# Altium schematic symbol library SamacSys.SchLib: 1281 symbols (part 12 of 13)
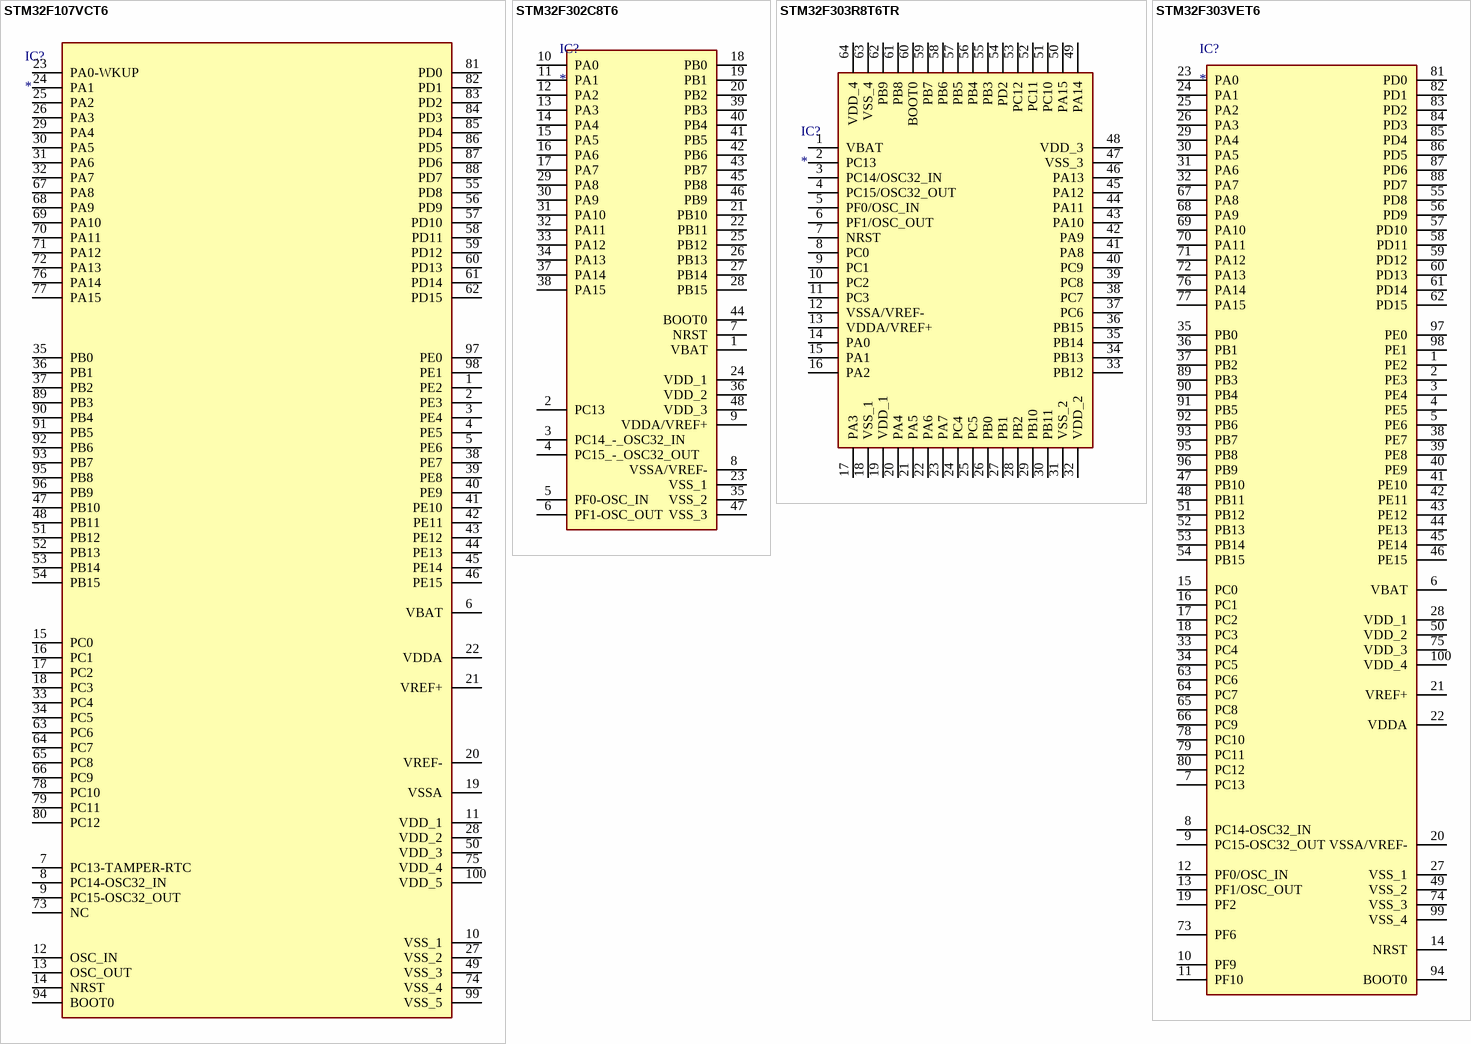
[diagram p58: symbols STM32F107VCT6 to STM32F303VET6]

## STM32F302C8T6
designator IC?
Integrated Circuit; Manufacturer_Name: STMicroelectronics; Manufacturer_Part_Number: STM32F302C8T6; Datasheet Link: http://www.st.com/content/ccc/resource/technical/document/datasheet/e4/06/d5/04/58/af/41/14/DM00093333.pdf/files/DM00093333.pdf/jcr:content/translations/en.DM00093333.pdf; Height: 1.6mm; Mouser Part Number: 511-STM32F302C8T6; Mouser Price/Stock: https://www.mouser.co.uk/ProductDetail/STMicroelectronics/STM32F302C8T6?qs=F5OEftmZcCDUtHR76ET77A%3D%3D; Arrow Part Number: STM32F302C8T6; Arrow Price/Stock: https://www.arrow.com/en/products/stm32f302c8t6/stmicroelectronics
footprint QFP50P900X900X160-48N
pins: 1 VBAT (power), 2 PC13, 3 PC14_-_OSC32_IN, 4 PC15_-_OSC32_OUT, 5 PF0-OSC_IN, 6 PF1-OSC_OUT, 7 NRST, 8 VSSA/VREF- (power), 9 VDDA/VREF+ (power), 10 PA0, 11 PA1, 12 PA2, 13 PA3, 14 PA4, 15 PA5, 16 PA6, 17 PA7, 18 PB0, 19 PB1, 20 PB2, 21 PB10, 22 PB11, 23 VSS_1 (power), 24 VDD_1 (power), 25 PB12, 26 PB13, 27 PB14, 28 PB15, 29 PA8, 30 PA9, 31 PA10, 32 PA11, 33 PA12, 34 PA13, 35 VSS_2 (power), 36 VDD_2 (power), 37 PA14, 38 PA15, 39 PB3, 40 PB4, 41 PB5, 42 PB6, 43 PB7, 44 BOOT0, 45 PB8, 46 PB9, 47 VSS_3 (power), 48 VDD_3 (power)

## STM32F303R8T6TR
designator IC?
Integrated Circuit; Manufacturer_Name: STMicroelectronics; Manufacturer_Part_Number: STM32F303R8T6TR; Datasheet Link: http://www.st.com/content/ccc/resource/technical/document/datasheet/group3/38/c6/ca/d1/f7/d5/4e/30/DM00092070/files/DM00092070.pdf/jcr:content/translations/en.DM00092070.pdf; Height: 1.6mm; Mouser Part Number: 511-STM32F303R8T6TR; Mouser Price/Stock: https://www.mouser.co.uk/ProductDetail/STMicroelectronics/STM32F303R8T6TR/?qs=Mv7BduZupUhh%2FFuiSoO91A%3D%3D; Arrow Part Number: STM32F303R8T6TR; Arrow Price/Stock: https://www.arrow.com/en/products/stm32f303r8t6tr/stmicroelectronics
footprint QFP50P1200X1200X160-64N
pins: 1 VBAT, 2 PC13, 3 PC14/OSC32_IN, 4 PC15/OSC32_OUT, 5 PF0/OSC_IN, 6 PF1/OSC_OUT, 7 NRST, 8 PC0, 9 PC1, 10 PC2, 11 PC3, 12 VSSA/VREF-, 13 VDDA/VREF+, 14 PA0, 15 PA1, 16 PA2, 17 PA3, 18 VSS_1, 19 VDD_1, 20 PA4, 21 PA5, 22 PA6, 23 PA7, 24 PC4, 25 PC5, 26 PB0, 27 PB1, 28 PB2, 29 PB10, 30 PB11, 31 VSS_2, 32 VDD_2, 33 PB12, 34 PB13, 35 PB14, 36 PB15, 37 PC6, 38 PC7, 39 PC8, 40 PC9, 41 PA8, 42 PA9, 43 PA10, 44 PA11, 45 PA12, 46 PA13, 47 VSS_3, 48 VDD_3, 49 PA14, 50 PA15, 51 PC10, 52 PC11, 53 PC12, 54 PD2, 55 PB3, 56 PB4, 57 PB5, 58 PB6, 59 PB7, 60 BOOT0, 61 PB8, 62 PB9, 63 VSS_4, 64 VDD_4

## STM32F303VET6
designator IC?
Integrated Circuit; Manufacturer_Name: STMicroelectronics; Manufacturer_Part_Number: STM32F303VET6; Datasheet Link: https://www.st.com/resource/en/datasheet/stm32f303re.pdf; Height: 1.6mm; Mouser Part Number: 511-STM32F303VET6; Mouser Price/Stock: https://www.mouser.co.uk/ProductDetail/STMicroelectronics/STM32F303VET6?qs=iEvsikg1EVwcae%2FGytZd7A%3D%3D; Arrow Part Number: STM32F303VET6; Arrow Price/Stock: https://www.arrow.com/en/products/stm32f303vet6/stmicroelectronics?region=nac
footprint QFP50P1600X1600X160-100N
pins: 1 PE2, 2 PE3, 3 PE4, 4 PE5, 5 PE6, 6 VBAT, 7 PC13, 8 PC14-OSC32_IN, 9 PC15-OSC32_OUT, 10 PF9, 11 PF10, 12 PF0/OSC_IN, 13 PF1/OSC_OUT, 14 NRST, 15 PC0, 16 PC1, 17 PC2, 18 PC3, 19 PF2, 20 VSSA/VREF-, 21 VREF+, 22 VDDA, 23 PA0, 24 PA1, 25 PA2, 26 PA3, 27 VSS_1, 28 VDD_1, 29 PA4, 30 PA5, 31 PA6, 32 PA7, 33 PC4, 34 PC5, 35 PB0, 36 PB1, 37 PB2, 38 PE7, 39 PE8, 40 PE9, 41 PE10, 42 PE11, 43 PE12, 44 PE13, 45 PE14, 46 PE15, 47 PB10, 48 PB11, 49 VSS_2, 50 VDD_2, 51 PB12, 52 PB13, 53 PB14, 54 PB15, 55 PD8, 56 PD9, 57 PD10, 58 PD11, 59 PD12, 60 PD13, 61 PD14, 62 PD15, 63 PC6, 64 PC7, 65 PC8, 66 PC9, 67 PA8, 68 PA9, 69 PA10, 70 PA11, 71 PA12, 72 PA13, 73 PF6, 74 VSS_3, 75 VDD_3, 76 PA14, 77 PA15, 78 PC10, 79 PC11, 80 PC12, 81 PD0, 82 PD1, 83 PD2, 84 PD3, 85 PD4, 86 PD5, 87 PD6, 88 PD7, 89 PB3, 90 PB4, 91 PB5, 92 PB6, 93 PB7, 94 BOOT0, 95 PB8, 96 PB9, 97 PE0, 98 PE1, 99 VSS_4, 100 VDD_4

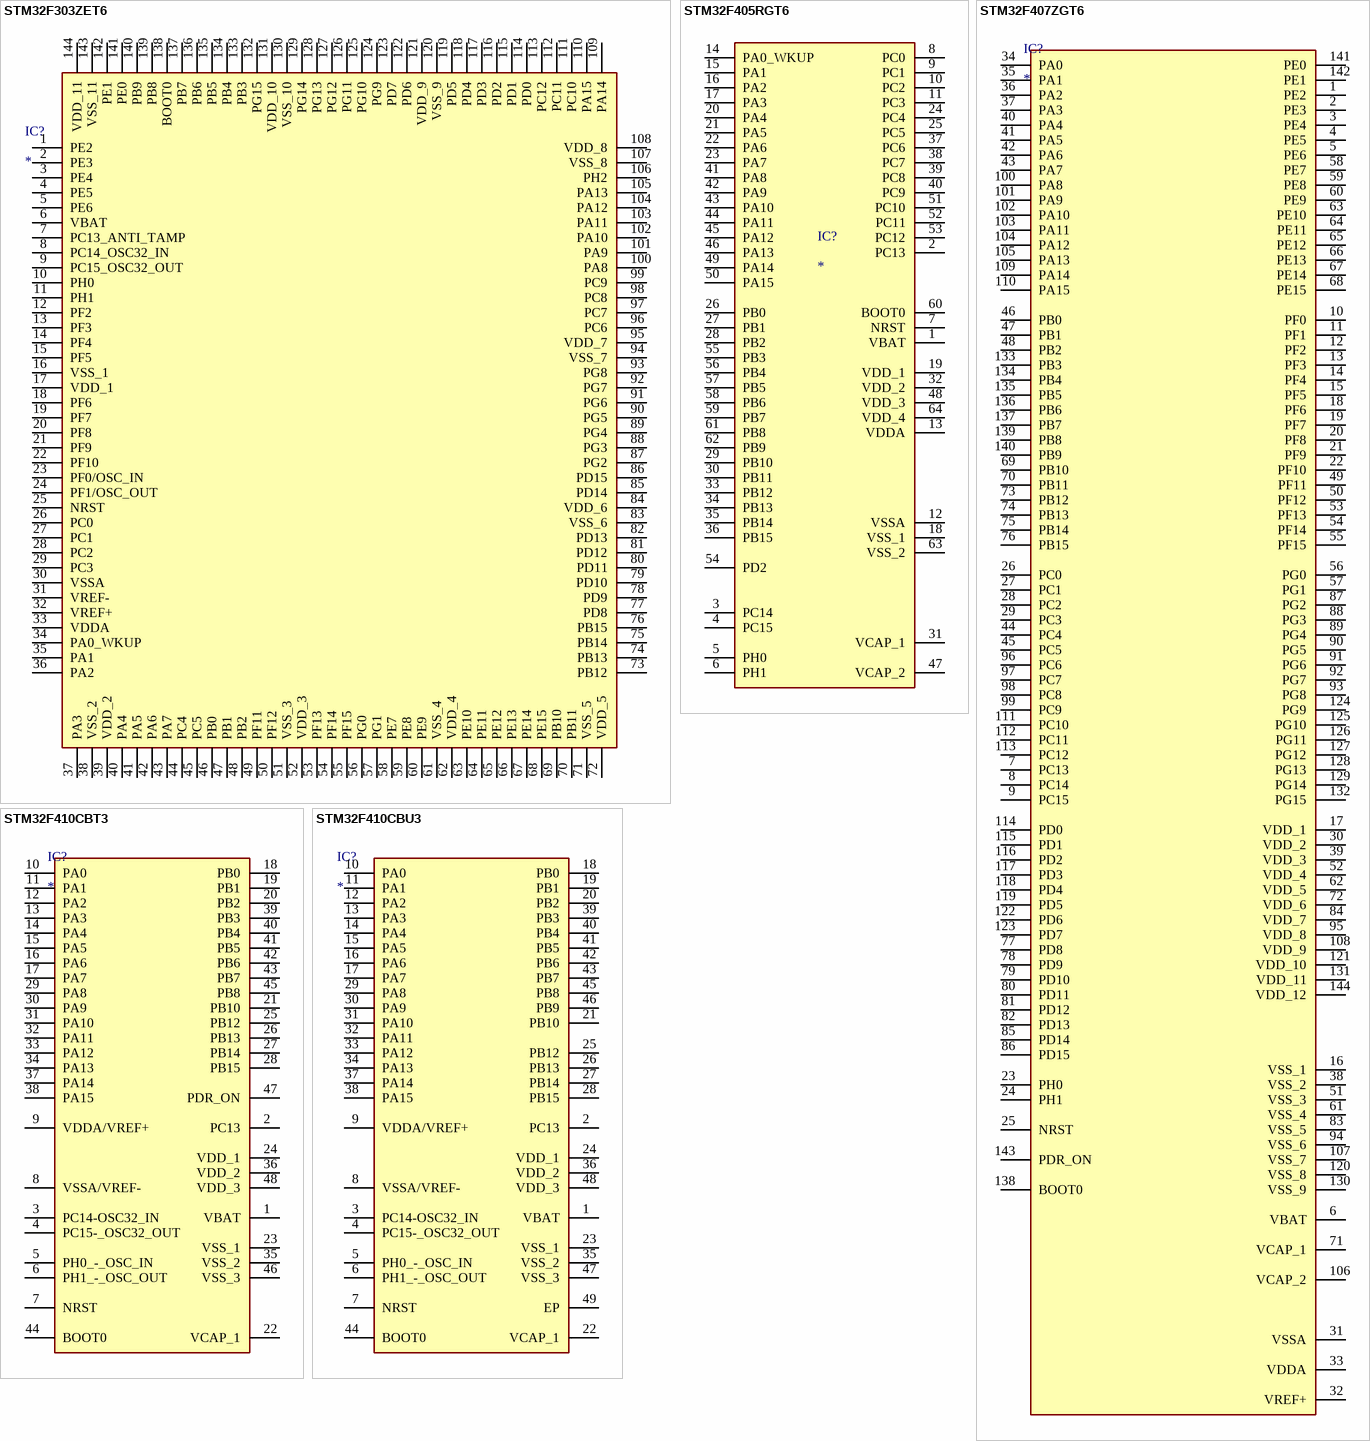
[diagram p41: symbols STM32F303ZET6 to STM32F410CBU3]

## STM32F303ZET6
designator IC?
Integrated Circuit; Manufacturer_Name: STMicroelectronics; Manufacturer_Part_Number: STM32F303ZET6; Datasheet Link: https://www.mouser.com/datasheet/2/389/stm32f303re-956235.pdf; Height: 1.6mm; Mouser Part Number: 511-STM32F303ZET6; Mouser Price/Stock: https://www.mouser.co.uk/ProductDetail/STMicroelectronics/STM32F303ZET6/?qs=iEvsikg1EVzOwGfbpy08jw%3D%3D; Arrow Part Number: STM32F303ZET6; Arrow Price/Stock: https://www.arrow.com/en/products/stm32f303zet6/stmicroelectronics
footprint QFP50P2200X2200X160-144N
pins: 1 PE2, 2 PE3, 3 PE4, 4 PE5, 5 PE6, 6 VBAT, 7 PC13_ANTI_TAMP, 8 PC14_OSC32_IN, 9 PC15_OSC32_OUT, 10 PH0, 11 PH1, 12 PF2, 13 PF3, 14 PF4, 15 PF5, 16 VSS_1, 17 VDD_1, 18 PF6, 19 PF7, 20 PF8, 21 PF9, 22 PF10, 23 PF0/OSC_IN, 24 PF1/OSC_OUT, 25 NRST, 26 PC0, 27 PC1, 28 PC2, 29 PC3, 30 VSSA, 31 VREF-, 32 VREF+, 33 VDDA, 34 PA0_WKUP, 35 PA1, 36 PA2, 37 PA3, 38 VSS_2, 39 VDD_2, 40 PA4, 41 PA5, 42 PA6, 43 PA7, 44 PC4, 45 PC5, 46 PB0, 47 PB1, 48 PB2, 49 PF11, 50 PF12, 51 VSS_3, 52 VDD_3, 53 PF13, 54 PF14, 55 PF15, 56 PG0, 57 PG1, 58 PE7, 59 PE8, 60 PE9, 61 VSS_4, 62 VDD_4, 63 PE10, 64 PE11, 65 PE12, 66 PE13, 67 PE14, 68 PE15, 69 PB10, 70 PB11, 71 VSS_5, 72 VDD_5, 73 PB12, 74 PB13, 75 PB14, 76 PB15, 77 PD8, 78 PD9, 79 PD10, 80 PD11, 81 PD12, 82 PD13, 83 VSS_6, 84 VDD_6, 85 PD14, 86 PD15, 87 PG2, 88 PG3, 89 PG4, 90 PG5, 91 PG6, 92 PG7, 93 PG8, 94 VSS_7, 95 VDD_7, 96 PC6, 97 PC7, 98 PC8, 99 PC9, 100 PA8, 101 PA9, 102 PA10, 103 PA11, 104 PA12, 105 PA13, 106 PH2, 107 VSS_8, 108 VDD_8, 109 PA14, 110 PA15, 111 PC10, 112 PC11, 113 PC12, 114 PD0, 115 PD1, 116 PD2, 117 PD3, 118 PD4, 119 PD5, 120 VSS_9, 121 VDD_9, 122 PD6, 123 PD7, 124 PG9, 125 PG10, 126 PG11, 127 PG12, 128 PG13, 129 PG14, 130 VSS_10, 131 VDD_10, 132 PG15, 133 PB3, 134 PB4, 135 PB5, 136 PB6, 137 PB7, 138 BOOT0, 139 PB8, 140 PB9, 141 PE0, 142 PE1, 143 VSS_11, 144 VDD_11

## STM32F405RGT6
designator IC?
Integrated Circuit; Manufacturer_Name: STMicroelectronics; Manufacturer_Part_Number: STM32F405RGT6; Datasheet Link: http://www.st.com/web/en/resource/technical/document/datasheet/DM00037051.pdf; Height: 1.6mm; Mouser Part Number: 511-STM32F405RGT6; Mouser Price/Stock: https://www.mouser.co.uk/ProductDetail/STMicroelectronics/STM32F405RGT6?qs=Z8%252BeY1k3TIKgj7QWsYGpQw%3D%3D; Arrow Part Number: STM32F405RGT6; Arrow Price/Stock: https://www.arrow.com/en/products/stm32f405rgt6/stmicroelectronics?region=nac
footprint QFP50P1200X1200X160-64N
pins: 1 VBAT, 2 PC13, 3 PC14, 4 PC15, 5 PH0, 6 PH1, 7 NRST, 8 PC0, 9 PC1, 10 PC2, 11 PC3, 12 VSSA, 13 VDDA, 14 PA0_WKUP, 15 PA1, 16 PA2, 17 PA3, 18 VSS_1, 19 VDD_1, 20 PA4, 21 PA5, 22 PA6, 23 PA7, 24 PC4, 25 PC5, 26 PB0, 27 PB1, 28 PB2, 29 PB10, 30 PB11, 31 VCAP_1, 32 VDD_2, 33 PB12, 34 PB13, 35 PB14, 36 PB15, 37 PC6, 38 PC7, 39 PC8, 40 PC9, 41 PA8, 42 PA9, 43 PA10, 44 PA11, 45 PA12, 46 PA13, 47 VCAP_2, 48 VDD_3, 49 PA14, 50 PA15, 51 PC10, 52 PC11, 53 PC12, 54 PD2, 55 PB3, 56 PB4, 57 PB5, 58 PB6, 59 PB7, 60 BOOT0, 61 PB8, 62 PB9, 63 VSS_2, 64 VDD_4

## STM32F407ZGT6
designator IC?
Integrated Circuit; Manufacturer_Name: STMicroelectronics; Manufacturer_Part_Number: STM32F407ZGT6; Datasheet Link: http://www.st.com/web/en/resource/technical/document/datasheet/DM00037051.pdf; Height: 1.6mm; Mouser Part Number: 511-STM32F407ZGT6; Mouser Price/Stock: https://www.mouser.co.uk/ProductDetail/STMicroelectronics/STM32F407ZGT6?qs=Z8%252BeY1k3TIKo142SZNWnSQ%3D%3D; Arrow Part Number: STM32F407ZGT6; Arrow Price/Stock: https://www.arrow.com/en/products/stm32f407zgt6/stmicroelectronics?region=nac
footprint QFP50P2200X2200X160-144N
pins: 1 PE2, 2 PE3, 3 PE4, 4 PE5, 5 PE6, 6 VBAT, 7 PC13, 8 PC14, 9 PC15, 10 PF0, 11 PF1, 12 PF2, 13 PF3, 14 PF4, 15 PF5, 16 VSS_1, 17 VDD_1, 18 PF6, 19 PF7, 20 PF8, 21 PF9, 22 PF10, 23 PH0, 24 PH1, 25 NRST, 26 PC0, 27 PC1, 28 PC2, 29 PC3, 30 VDD_2, 31 VSSA, 32 VREF+, 33 VDDA, 34 PA0, 35 PA1, 36 PA2, 37 PA3, 38 VSS_2, 39 VDD_3, 40 PA4, 41 PA5, 42 PA6, 43 PA7, 44 PC4, 45 PC5, 46 PB0, 47 PB1, 48 PB2, 49 PF11, 50 PF12, 51 VSS_3, 52 VDD_4, 53 PF13, 54 PF14, 55 PF15, 56 PG0, 57 PG1, 58 PE7, 59 PE8, 60 PE9, 61 VSS_4, 62 VDD_5, 63 PE10, 64 PE11, 65 PE12, 66 PE13, 67 PE14, 68 PE15, 69 PB10, 70 PB11, 71 VCAP_1, 72 VDD_6, 73 PB12, 74 PB13, 75 PB14, 76 PB15, 77 PD8, 78 PD9, 79 PD10, 80 PD11, 81 PD12, 82 PD13, 83 VSS_5, 84 VDD_7, 85 PD14, 86 PD15, 87 PG2, 88 PG3, 89 PG4, 90 PG5, 91 PG6, 92 PG7, 93 PG8, 94 VSS_6, 95 VDD_8, 96 PC6, 97 PC7, 98 PC8, 99 PC9, 100 PA8, 101 PA9, 102 PA10, 103 PA11, 104 PA12, 105 PA13, 106 VCAP_2, 107 VSS_7, 108 VDD_9, 109 PA14, 110 PA15, 111 PC10, 112 PC11, 113 PC12, 114 PD0, 115 PD1, 116 PD2, 117 PD3, 118 PD4, 119 PD5, 120 VSS_8, 121 VDD_10, 122 PD6, 123 PD7, 124 PG9, 125 PG10, 126 PG11, 127 PG12, 128 PG13, 129 PG14, 130 VSS_9, 131 VDD_11, 132 PG15, 133 PB3, 134 PB4, 135 PB5, 136 PB6, 137 PB7, 138 BOOT0, 139 PB8, 140 PB9, 141 PE0, 142 PE1, 143 PDR_ON, 144 VDD_12

## STM32F410CBT3
designator IC?
Integrated Circuit; Manufacturer_Name: STMicroelectronics; Manufacturer_Part_Number: STM32F410CBT3; Datasheet Link: https://www.st.com/resource/en/datasheet/stm32f410cb.pdf; Height: 1.6mm; Mouser Part Number: 511-STM32F410CBT3; Mouser Price/Stock: https://www.mouser.co.uk/ProductDetail/STMicroelectronics/STM32F410CBT3?qs=aVyJF2WnouRcCwtM3E6qMA%3D%3D; Arrow Part Number: STM32F410CBT3; Arrow Price/Stock: https://www.arrow.com/en/products/stm32f410cbt3/stmicroelectronics?region=nac
footprint QFP50P900X900X160-48N
pins: 1 VBAT, 2 PC13, 3 PC14-OSC32_IN, 4 PC15-_OSC32_OUT, 5 PH0_-_OSC_IN, 6 PH1_-_OSC_OUT, 7 NRST, 8 VSSA/VREF-, 9 VDDA/VREF+, 10 PA0, 11 PA1, 12 PA2, 13 PA3, 14 PA4, 15 PA5, 16 PA6, 17 PA7, 18 PB0, 19 PB1, 20 PB2, 21 PB10, 22 VCAP_1, 23 VSS_1, 24 VDD_1, 25 PB12, 26 PB13, 27 PB14, 28 PB15, 29 PA8, 30 PA9, 31 PA10, 32 PA11, 33 PA12, 34 PA13, 35 VSS_2, 36 VDD_2, 37 PA14, 38 PA15, 39 PB3, 40 PB4, 41 PB5, 42 PB6, 43 PB7, 44 BOOT0, 45 PB8, 46 VSS_3, 47 PDR_ON, 48 VDD_3

## STM32F410CBU3
designator IC?
Integrated Circuit; Manufacturer_Name: STMicroelectronics; Manufacturer_Part_Number: STM32F410CBU3; Datasheet Link: https://mouser.componentsearchengine.com/Datasheets/1/STM32F410CBU3.pdf; Height: 0.8mm; Mouser Part Number: 511-STM32F410CBU3; Mouser Price/Stock: https://www.mouser.co.uk/ProductDetail/STMicroelectronics/STM32F410CBU3?qs=vdi0iO8H4N2mLP2BZX6peA%3D%3D; Arrow Part Number: STM32F410CBU3; Arrow Price/Stock: https://www.arrow.com/en/products/stm32f410cbu3/stmicroelectronics?region=nac
footprint QFN50P700X700X80-49N-D
pins: 1 VBAT, 2 PC13, 3 PC14-OSC32_IN, 4 PC15-_OSC32_OUT, 5 PH0_-_OSC_IN, 6 PH1_-_OSC_OUT, 7 NRST, 8 VSSA/VREF-, 9 VDDA/VREF+, 10 PA0, 11 PA1, 12 PA2, 13 PA3, 14 PA4, 15 PA5, 16 PA6, 17 PA7, 18 PB0, 19 PB1, 20 PB2, 21 PB10, 22 VCAP_1, 23 VSS_1, 24 VDD_1, 25 PB12, 26 PB13, 27 PB14, 28 PB15, 29 PA8, 30 PA9, 31 PA10, 32 PA11, 33 PA12, 34 PA13, 35 VSS_2, 36 VDD_2, 37 PA14, 38 PA15, 39 PB3, 40 PB4, 41 PB5, 42 PB6, 43 PB7, 44 BOOT0, 45 PB8, 46 PB9, 47 VSS_3, 48 VDD_3, 49 EP

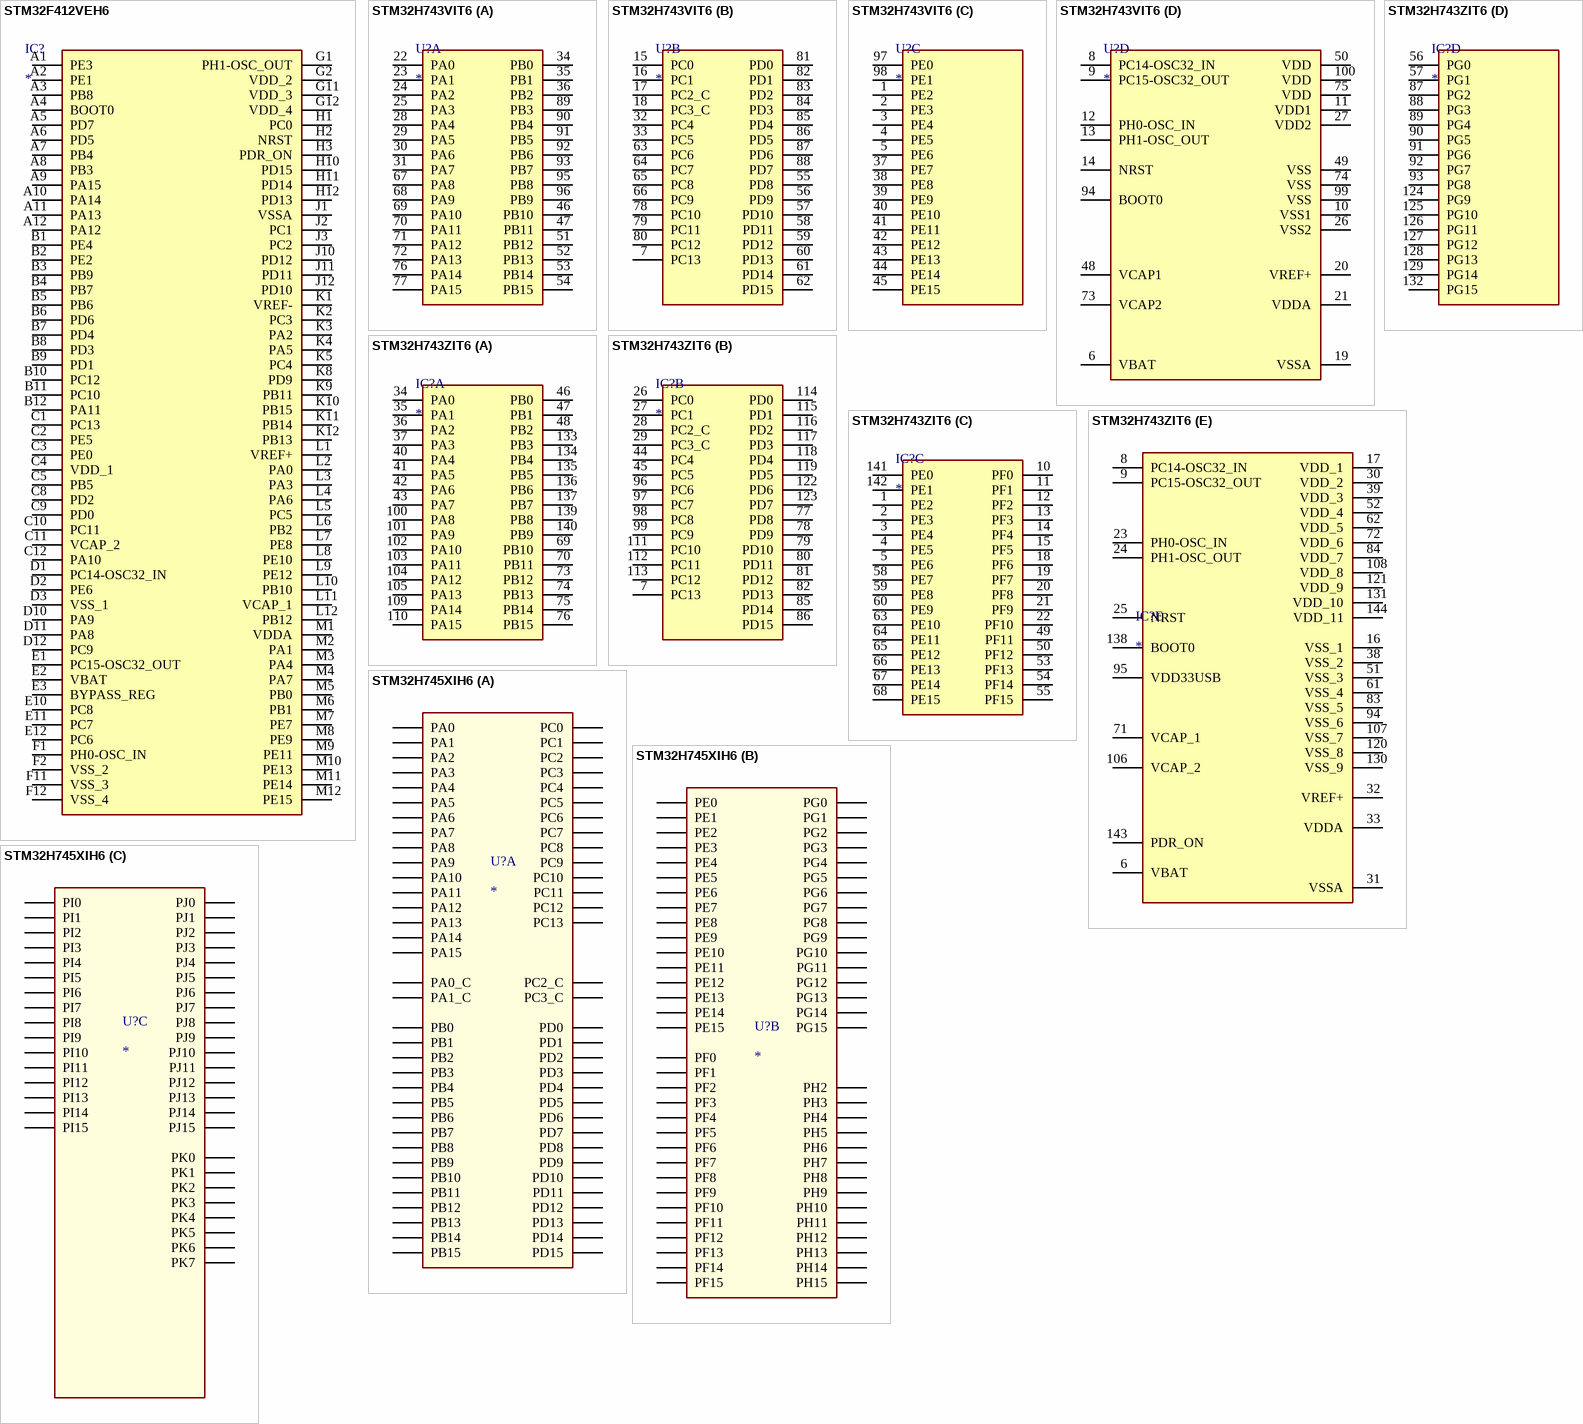
[diagram p42: symbols STM32F412VEH6 to STM32H745XIH6]

## STM32F412VEH6
designator IC?
Integrated Circuit; Manufacturer_Name: STMicroelectronics; Manufacturer_Part_Number: STM32F412VEH6; Datasheet Link: https://www.st.com/resource/en/datasheet/stm32f412ve.pdf; Height: 0.6mm; Mouser Part Number: 511-STM32F412VEH6; Mouser Price/Stock: https://www.mouser.co.uk/ProductDetail/STMicroelectronics/STM32F412VEH6?qs=xwQlLnDx56DBogKHiTOukA%3D%3D; Arrow Part Number: STM32F412VEH6; Arrow Price/Stock: https://www.arrow.com/en/products/stm32f412veh6/stmicroelectronics?region=nac
footprint BGA100C50P12X12_700X700X60
pins: A1 PE3, A2 PE1, A3 PB8, A4 BOOT0, A5 PD7, A6 PD5, A7 PB4, A8 PB3, A9 PA15, A10 PA14, A11 PA13, A12 PA12, B1 PE4, B2 PE2, B3 PB9, B4 PB7, B5 PB6, B6 PD6, B7 PD4, B8 PD3, B9 PD1, B10 PC12, B11 PC10, B12 PA11, C1 PC13, C2 PE5, C3 PE0, C4 VDD_1, C5 PB5, C8 PD2, C9 PD0, C10 PC11, C11 VCAP_2, C12 PA10, D1 PC14-OSC32_IN, D2 PE6, D3 VSS_1, D10 PA9, D11 PA8, D12 PC9, E1 PC15-OSC32_OUT, E2 VBAT, E3 BYPASS_REG, E10 PC8, E11 PC7, E12 PC6, F1 PH0-OSC_IN, F2 VSS_2, F11 VSS_3, F12 VSS_4, G1 PH1-OSC_OUT, G2 VDD_2, G11 VDD_3, G12 VDD_4, H1 PC0, H2 NRST, H3 PDR_ON, H10 PD15, H11 PD14, H12 PD13, J1 VSSA, J2 PC1, J3 PC2, J10 PD12, J11 PD11, J12 PD10, K1 VREF-, K2 PC3, K3 PA2, K4 PA5, K5 PC4, K8 PD9, K9 PB11, K10 PB15, K11 PB14, K12 PB13, L1 VREF+, L2 PA0, L3 PA3, L4 PA6, L5 PC5, L6 PB2, L7 PE8, L8 PE10, L9 PE12, L10 PB10, L11 VCAP_1, L12 PB12, M1 VDDA, M2 PA1, M3 PA4, M4 PA7, M5 PB0, M6 PB1, M7 PE7, M8 PE9, M9 PE11, M10 PE13, M11 PE14, M12 PE15

## STM32H743VIT6
designator U?
Integrated Circuit; Manufacturer_Name: STMicroelectronics; Manufacturer_Part_Number: STM32H743VIT6; Datasheet Link: https://www.st.com/resource/en/datasheet/stm32h743vi.pdf; Height: 1.6mm; Mouser Part Number: 511-STM32H743VIT6; Mouser Price/Stock: https://www.mouser.co.uk/ProductDetail/STMicroelectronics/STM32H743VIT6?qs=FNcb6ahWXRw0Me5k2ZHgWw%3D%3D; Arrow Part Number: STM32H743VIT6; Arrow Price/Stock: https://www.arrow.com/en/products/stm32h743vit6/stmicroelectronics
footprint QFP50P1600X1600X160-100N
part A pins: 22 PA0, 23 PA1, 24 PA2, 25 PA3, 28 PA4, 29 PA5, 30 PA6, 31 PA7, 34 PB0, 35 PB1, 36 PB2, 46 PB10, 47 PB11, 51 PB12, 52 PB13, 53 PB14, 54 PB15, 67 PA8, 68 PA9, 69 PA10, 70 PA11, 71 PA12, 72 PA13, 76 PA14, 77 PA15, 89 PB3, 90 PB4, 91 PB5, 92 PB6, 93 PB7, 95 PB8, 96 PB9
part B pins: 7 PC13, 15 PC0, 16 PC1, 17 PC2_C, 18 PC3_C, 32 PC4, 33 PC5, 55 PD8, 56 PD9, 57 PD10, 58 PD11, 59 PD12, 60 PD13, 61 PD14, 62 PD15, 63 PC6, 64 PC7, 65 PC8, 66 PC9, 78 PC10, 79 PC11, 80 PC12, 81 PD0, 82 PD1, 83 PD2, 84 PD3, 85 PD4, 86 PD5, 87 PD6, 88 PD7
part C pins: 1 PE2, 2 PE3, 3 PE4, 4 PE5, 5 PE6, 37 PE7, 38 PE8, 39 PE9, 40 PE10, 41 PE11, 42 PE12, 43 PE13, 44 PE14, 45 PE15, 97 PE0, 98 PE1
part D pins: 6 VBAT, 8 PC14-OSC32_IN, 9 PC15-OSC32_OUT, 10 VSS1, 11 VDD1, 12 PH0-OSC_IN, 13 PH1-OSC_OUT, 14 NRST, 19 VSSA, 20 VREF+, 21 VDDA, 26 VSS2, 27 VDD2, 48 VCAP1, 49 VSS, 50 VDD, 73 VCAP2, 74 VSS, 75 VDD, 94 BOOT0, 99 VSS, 100 VDD

## STM32H743ZIT6
designator IC?
Integrated Circuit; Manufacturer_Name: STMicroelectronics; Manufacturer_Part_Number: STM32H743ZIT6; Datasheet Link: https://www.st.com/resource/en/datasheet/stm32h743zi.pdf; Height: 1.6mm; Mouser Part Number: 511-STM32H743ZIT6; Mouser Price/Stock: https://www.mouser.co.uk/ProductDetail/STMicroelectronics/STM32H743ZIT6?qs=FNcb6ahWXRyuf15GdgTu%252Bw%3D%3D; Arrow Part Number: STM32H743ZIT6; Arrow Price/Stock: https://www.arrow.com/en/products/stm32h743zit6/stmicroelectronics?utm_currency=USD&region=nac
footprint QFP50P2200X2200X160-144N
part A pins: 34 PA0, 35 PA1, 36 PA2, 37 PA3, 40 PA4, 41 PA5, 42 PA6, 43 PA7, 46 PB0, 47 PB1, 48 PB2, 69 PB10, 70 PB11, 73 PB12, 74 PB13, 75 PB14, 76 PB15, 100 PA8, 101 PA9, 102 PA10, 103 PA11, 104 PA12, 105 PA13, 109 PA14, 110 PA15, 133 PB3, 134 PB4, 135 PB5, 136 PB6, 137 PB7, 139 PB8, 140 PB9
part B pins: 7 PC13, 26 PC0, 27 PC1, 28 PC2_C, 29 PC3_C, 44 PC4, 45 PC5, 77 PD8, 78 PD9, 79 PD10, 80 PD11, 81 PD12, 82 PD13, 85 PD14, 86 PD15, 96 PC6, 97 PC7, 98 PC8, 99 PC9, 111 PC10, 112 PC11, 113 PC12, 114 PD0, 115 PD1, 116 PD2, 117 PD3, 118 PD4, 119 PD5, 122 PD6, 123 PD7
part C pins: 1 PE2, 2 PE3, 3 PE4, 4 PE5, 5 PE6, 10 PF0, 11 PF1, 12 PF2, 13 PF3, 14 PF4, 15 PF5, 18 PF6, 19 PF7, 20 PF8, 21 PF9, 22 PF10, 49 PF11, 50 PF12, 53 PF13, 54 PF14, 55 PF15, 58 PE7, 59 PE8, 60 PE9, 63 PE10, 64 PE11, 65 PE12, 66 PE13, 67 PE14, 68 PE15, 141 PE0, 142 PE1
part D pins: 56 PG0, 57 PG1, 87 PG2, 88 PG3, 89 PG4, 90 PG5, 91 PG6, 92 PG7, 93 PG8, 124 PG9, 125 PG10, 126 PG11, 127 PG12, 128 PG13, 129 PG14, 132 PG15
part E pins: 6 VBAT, 8 PC14-OSC32_IN, 9 PC15-OSC32_OUT, 16 VSS_1, 17 VDD_1, 23 PH0-OSC_IN, 24 PH1-OSC_OUT, 25 NRST, 30 VDD_2, 31 VSSA, 32 VREF+, 33 VDDA, 38 VSS_2, 39 VDD_3, 51 VSS_3, 52 VDD_4, 61 VSS_4, 62 VDD_5, 71 VCAP_1, 72 VDD_6, 83 VSS_5, 84 VDD_7, 94 VSS_6, 95 VDD33USB, 106 VCAP_2, 107 VSS_7, 108 VDD_8, 120 VSS_8, 121 VDD_9, 130 VSS_9, 131 VDD_10, 138 BOOT0, 143 PDR_ON, 144 VDD_11

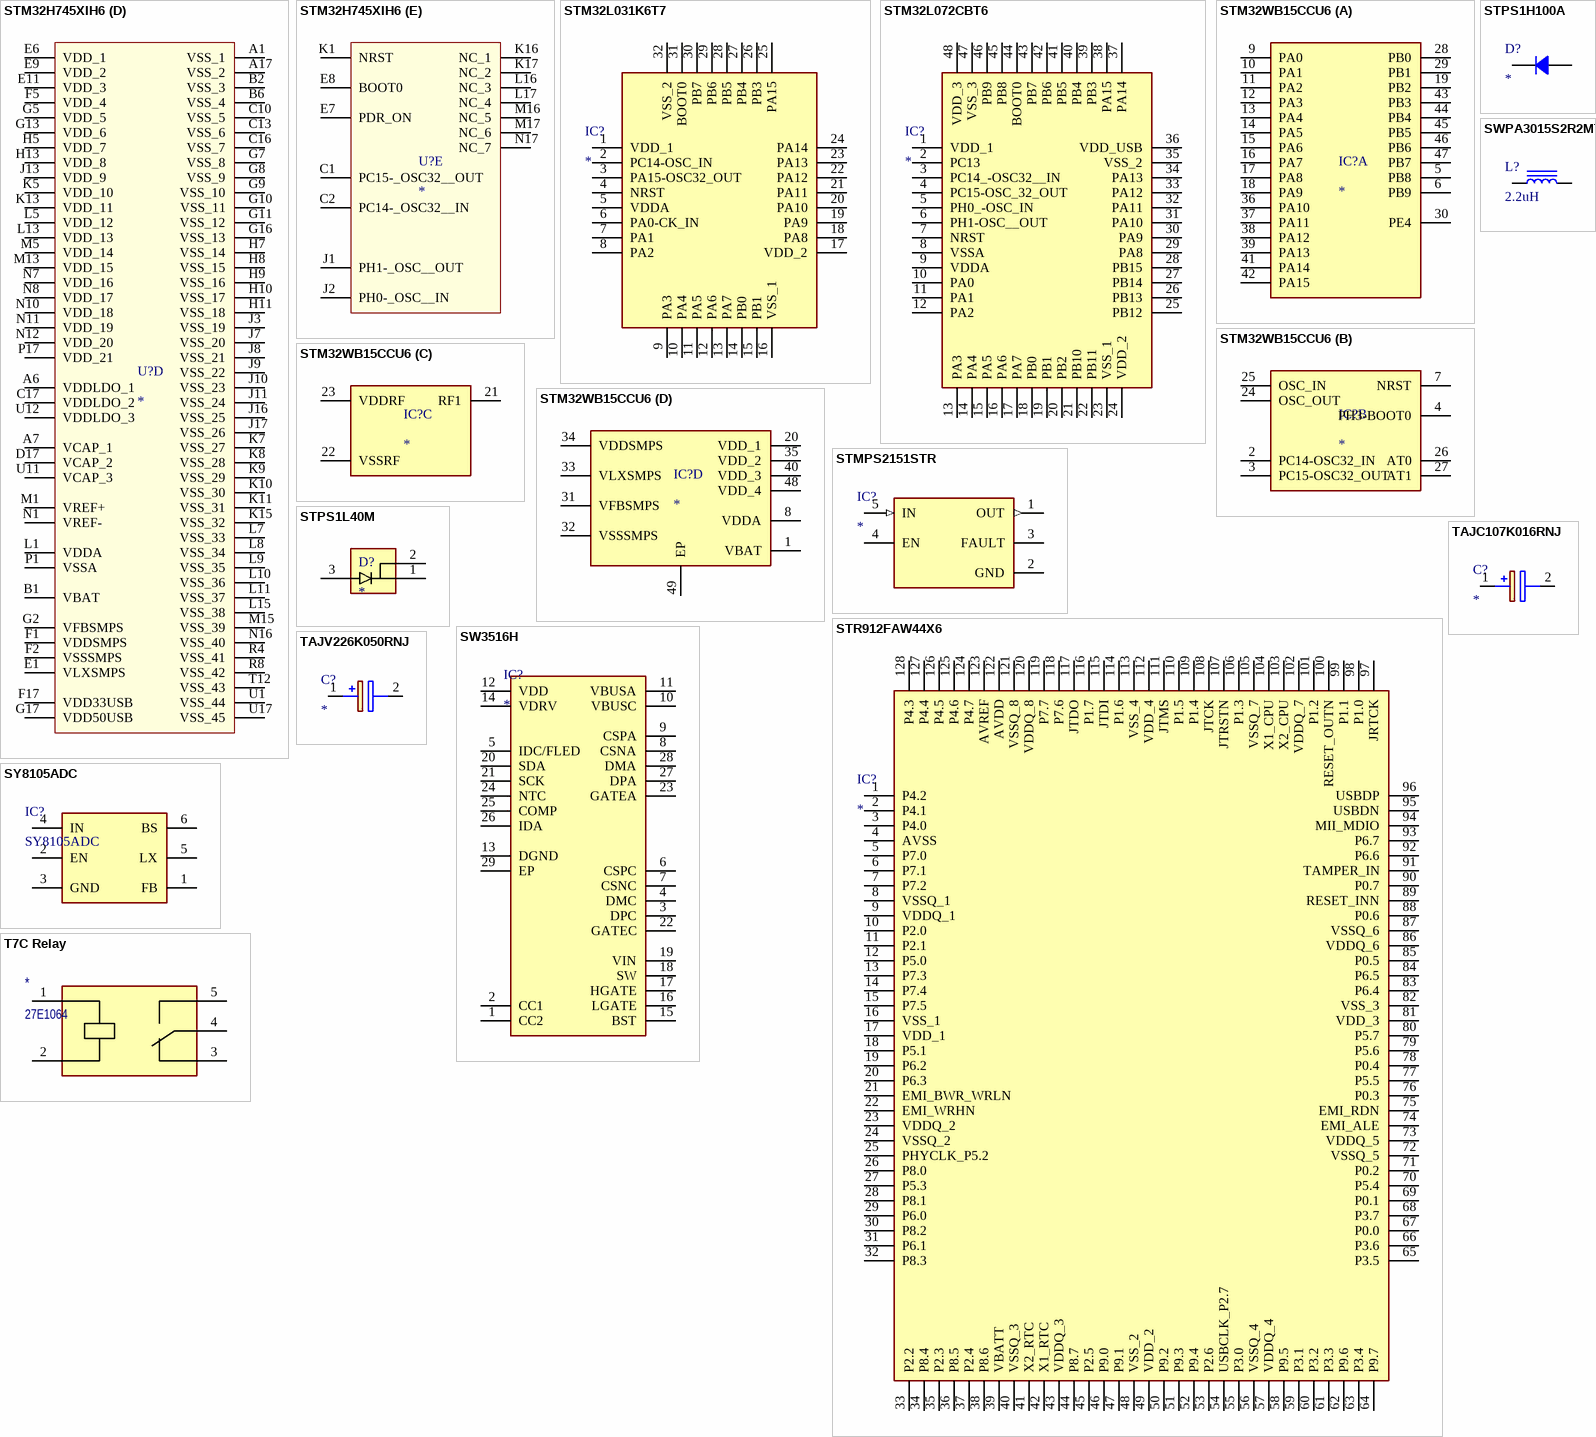
[diagram p43: symbols STM32H745XIH6 to TAJV226K050RNJ]

## STM32H745XIH6
designator U?
Integrated Circuit; Manufacturer_Name: STMicroelectronics; Manufacturer_Part_Number: STM32H745XIH6; Datasheet Link: https://www.st.com/resource/en/datasheet/stm32h745xi.pdf; Height: 1.1mm; Mouser Part Number: 511-STM32H745XIH6; Mouser Price/Stock: https://www.mouser.co.uk/ProductDetail/STMicroelectronics/STM32H745XIH6?qs=vLWxofP3U2zOl6AV%2FGPxYw%3D%3D; Arrow Part Number: STM32H745XIH6; Arrow Price/Stock: https://www.arrow.com/en/products/stm32h745xih6/stmicroelectronics?region=nac
footprint BGA265C80P17X17_1400X1400X110
part A pins: A5 PB5, A11 PD5, A12 PD4, A13 PC10, A14 PA15, B5 PB6, B7 PB4, B11 PD6, B12 PD3, B13 PC11, B14 PA14, C5 PB7, C6 PB3, C11 PD7, C12 PC12, C15 PA13, D4 PB9, D5 PB8, D12 PD2, D13 PD0, D14 PA10, D15 PA9, E3 PC13, E12 PD1, E13 PC8, E14 PC9, E15 PA8, E16 PA12, E17 PA11, F13 PC7, F14 PC6, L2 PC0, M2 PC1, M3 PC2, M4 PC3, N3 PA2, N4 PA1, N5 PA0, P11 PB10, P12 PB11, P15 PD15, P16 PD14, R1 PC2_C, R2 PC3_C, R3 PA6, R5 PA7, R6 PB2, R15 PD11, R16 PD12, R17 PD13, T1 PA0_C, T2 PA1_C, T3 PA5, T4 PC4, T5 PB1, T14 PB12, T15 PB15, T16 PD10, T17 PD9, U2 PA3, U3 PA4, U4 PC5, U5 PB0, U14 PB13, U15 PB14, U16 PD8
part B pins: A9 PG10, A10 PG9, B4 PE1, B9 PG11, B16 PH15, B17 PH14, C3 PE2, C4 PE0, C9 PG12, D1 PE5, D2 PE4, D3 PE3, D6 PG15, D8 PG14, D9 PG13, D16 PH13, E5 PE6, F15 PG8, F16 PG7, G1 PF2, G3 PF1, G4 PF0, G14 PG5, G15 PG6, H4 PF3, H14 PG4, H15 PG3, H16 PG2, J4 PF5, J5 PF4, K2 PF6, K3 PF7, K4 PF8, L3 PF10, L4 PF9, N2 PH2, N9 PE10, P2 PH3, P3 PH4, P4 PH5, P7 PF13, P8 PF14, P9 PE9, P10 PE11, P13 PH10, P14 PH11, R7 PF12, R9 PF15, R10 PE12, R11 PE15, R13 PH9, R14 PH12, T7 PF11, T8 PG0, T9 PE8, T10 PE13, T11 PH6, T13 PH8, U8 PG1, U9 PE7, U10 PE14, U13 PH7
part C pins: A2 PI6, A3 PI5, A4 PI4, A8 PK5, A15 PI1, A16 PI0, B3 PI7, B8 PK4, B10 PJ15, B15 PI2, C7 PK6, C8 PK3, C14 PI3, D7 PK7, D10 PJ14, D11 PJ12, E2 PI9, E4 PI8, E10 PJ13, F3 PI10, F4 PI11, H1 PI12, H2 PI13, H3 PI14, H17 PK2, J14 PK0, J15 PK1, K14 PJ11, L14 PJ10, M14 PJ9, N6 PJ0, N13 PJ8, N14 PJ7, N15 PJ6, P5 PI15, P6 PJ1, R12 PJ5, T6 PJ2, U6 PJ3, U7 PJ4
part D pins: A1 VSS_1, A6 VDDLDO_1, A7 VCAP_1, A17 VSS_2, B1 VBAT, B2 VSS_3, B6 VSS_4, C10 VSS_5, C13 VSS_6, C16 VSS_7, C17 VDDLDO_2, D17 VCAP_2, E1 VLXSMPS, E6 VDD_1, E9 VDD_2, E11 VDD_3, F1 VDDSMPS, F2 VSSSMPS, F5 VDD_4, F17 VDD33USB, G2 VFBSMPS, G5 VDD_5, G7 VSS_8, G8 VSS_9, G9 VSS_10, G10 VSS_11, G11 VSS_12, G13 VDD_6, G16 VSS_13, G17 VDD50USB, H5 VDD_7, H7 VSS_14, H8 VSS_15, H9 VSS_16, H10 VSS_17, H11 VSS_18, H13 VDD_8, J3 VSS_19, J7 VSS_20, J8 VSS_21, J9 VSS_22, J10 VSS_23, J11 VSS_24, J13 VDD_9, J16 VSS_25, J17 VSS_26, K5 VDD_10, K7 VSS_27, K8 VSS_28, K9 VSS_29, K10 VSS_30, K11 VSS_31, K13 VDD_11, K15 VSS_32, L1 VDDA, L5 VDD_12, L7 VSS_33, L8 VSS_34, L9 VSS_35, L10 VSS_36, L11 VSS_37, L13 VDD_13, L15 VSS_38, M1 VREF+, M5 VDD_14, M13 VDD_15, M15 VSS_39, N1 VREF-, N7 VDD_16, N8 VDD_17, N10 VDD_18, N11 VDD_19, N12 VDD_20, N16 VSS_40, P1 VSSA, P17 VDD_21, R4 VSS_41, R8 VSS_42, T12 VSS_43, U1 VSS_44, U11 VCAP_3, U12 VDDLDO_3, U17 VSS_45
part E pins: C1 PC15-_OSC32__OUT, C2 PC14-_OSC32__IN, E7 PDR_ON, E8 BOOT0, J1 PH1-_OSC__OUT, J2 PH0-_OSC__IN, K1 NRST, K16 NC_1, K17 NC_2, L16 NC_3, L17 NC_4, M16 NC_5, M17 NC_6, N17 NC_7

## STM32L031K6T7
designator IC?
Integrated Circuit; Manufacturer_Name: STMicroelectronics; Manufacturer_Part_Number: STM32L031K6T7; Datasheet Link: http://www.st.com/content/ccc/resource/technical/document/datasheet/aa/5d/77/ad/1a/59/4a/b9/DM00140359.pdf/files/DM00140359.pdf/jcr:content/translations/en.DM00140359.pdf; Height: 1.6mm; Mouser Part Number: 511-STM32L031K6T7; Mouser Price/Stock: https://www.mouser.co.uk/ProductDetail/STMicroelectronics/STM32L031K6T7?qs=qf2ddTMq67XoEgfC%252BBv82Q%3D%3D; Arrow Part Number: STM32L031K6T7; Arrow Price/Stock: https://www.arrow.com/en/products/stm32l031k6t7/stmicroelectronics?region=nac
footprint QFP80P900X900X160-32N
pins: 1 VDD_1, 2 PC14-OSC_IN, 3 PA15-OSC32_OUT, 4 NRST, 5 VDDA, 6 PA0-CK_IN, 7 PA1, 8 PA2, 9 PA3, 10 PA4, 11 PA5, 12 PA6, 13 PA7, 14 PB0, 15 PB1, 16 VSS_1, 17 VDD_2, 18 PA8, 19 PA9, 20 PA10, 21 PA11, 22 PA12, 23 PA13, 24 PA14, 25 PA15, 26 PB3, 27 PB4, 28 PB5, 29 PB6, 30 PB7, 31 BOOT0, 32 VSS_2

## STM32L072CBT6
designator IC?
Integrated Circuit; Manufacturer_Name: STMicroelectronics; Manufacturer_Part_Number: STM32L072CBT6; Datasheet Link: https://www.st.com/resource/en/datasheet/stm32l072cb.pdf; Height: 1.6mm; Mouser Part Number: 511-STM32L072CBT6; Mouser Price/Stock: https://www.mouser.co.uk/ProductDetail/STMicroelectronics/STM32L072CBT6?qs=dTJS0cRn7ojAyJ%2FoC1SuOQ%3D%3D; Arrow Part Number: STM32L072CBT6; Arrow Price/Stock: https://www.arrow.com/en/products/stm32l072cbt6/stmicroelectronics?region=nac
footprint QFP50P900X900X160-48N
pins: 1 VDD_1, 2 PC13, 3 PC14_-OSC32__IN, 4 PC15-OSC_32_OUT, 5 PH0_-OSC_IN, 6 PH1-OSC__OUT, 7 NRST, 8 VSSA, 9 VDDA, 10 PA0, 11 PA1, 12 PA2, 13 PA3, 14 PA4, 15 PA5, 16 PA6, 17 PA7, 18 PB0, 19 PB1, 20 PB2, 21 PB10, 22 PB11, 23 VSS_1, 24 VDD_2, 25 PB12, 26 PB13, 27 PB14, 28 PB15, 29 PA8, 30 PA9, 31 PA10, 32 PA11, 33 PA12, 34 PA13, 35 VSS_2, 36 VDD_USB, 37 PA14, 38 PA15, 39 PB3, 40 PB4, 41 PB5, 42 PB6, 43 PB7, 44 BOOT0, 45 PB8, 46 PB9, 47 VSS_3, 48 VDD_3

## STM32WB15CCU6
designator IC?
Integrated Circuit; Manufacturer_Name: STMicroelectronics; Manufacturer_Part_Number: STM32WB15CCU6; Datasheet Link: https://www.mouser.de/datasheet/2/389/dm00687952-2400695.pdf; Height: 0.6mm; Mouser Part Number: 511-STM32WB15CCU6; Mouser Price/Stock: https://www.mouser.co.uk/ProductDetail/STMicroelectronics/STM32WB15CCU6?qs=DRkmTr78QATikAob%252BX8G8A%3D%3D; Arrow Part Number: STM32WB15CCU6; Arrow Price/Stock: https://www.arrow.com/en/products/stm32wb15ccu6/stmicroelectronics?region=nac
footprint QFN50P700X700X60-49N-D
part A pins: 5 PB8, 6 PB9, 9 PA0, 10 PA1, 11 PA2, 12 PA3, 13 PA4, 14 PA5, 15 PA6, 16 PA7, 17 PA8, 18 PA9, 19 PB2, 28 PB0, 29 PB1, 30 PE4, 36 PA10, 37 PA11, 38 PA12, 39 PA13, 41 PA14, 42 PA15, 43 PB3, 44 PB4, 45 PB5, 46 PB6, 47 PB7
part B pins: 2 PC14-OSC32_IN, 3 PC15-OSC32_OUT, 4 PH3-BOOT0, 7 NRST, 24 OSC_OUT, 25 OSC_IN, 26 AT0, 27 AT1
part C pins: 21 RF1, 22 VSSRF, 23 VDDRF
part D pins: 1 VBAT, 8 VDDA, 20 VDD_1, 31 VFBSMPS, 32 VSSSMPS, 33 VLXSMPS, 34 VDDSMPS, 35 VDD_2, 40 VDD_3, 48 VDD_4, 49 EP

## STMPS2151STR
designator IC?
Integrated Circuit; Manufacturer_Name: STMicroelectronics; Manufacturer_Part_Number: STMPS2151STR; Datasheet Link: http://docs-emea.rs-online.com/webdocs/140d/0900766b8140da90.pdf; Height: 1.45mm; Mouser Part Number: 511-STMPS2151STR; Mouser Price/Stock: https://www.mouser.co.uk/ProductDetail/STMicroelectronics/STMPS2151STR?qs=qolwYojYp3THidumZGqCjQ%3D%3D; Arrow Part Number: STMPS2151STR; Arrow Price/Stock: https://www.arrow.com/en/products/stmps2151str/stmicroelectronics?region=nac
footprint SOT95P280X145-5N
pins: 1 OUT (out), 2 GND (power), 3 FAULT, 4 EN, 5 IN (in)

## STPS1H100A
designator D?
Diode; Manufacturer_Name: STMicroelectronics; Manufacturer_Part_Number: STPS1H100A; Datasheet Link: http://www.st.com/web/en/resource/technical/document/datasheet/CD00001304.pdf; Height: 2.65mm; Mouser Part Number: 511-STPS1H100A; Mouser Price/Stock: https://www.mouser.co.uk/ProductDetail/STMicroelectronics/STPS1H100A?qs=DEIWxvUoIVyfsL0cdutZgg%3D%3D; Arrow Part Number: STPS1H100A; Arrow Price/Stock: https://www.arrow.com/en/products/stps1h100a/stmicroelectronics
footprint DIOM5126X265N
pins: 1, 2 12

## STPS1L40M
designator D?
Schottky Diode; Manufacturer_Name: STMicroelectronics; Manufacturer_Part_Number: STPS1L40M; Datasheet Link: http://www.st.com/content/ccc/resource/technical/document/datasheet/62/69/a4/97/73/11/43/c2/CD00003015.pdf/files/CD00003015.pdf/jcr:content/translations/en.CD00003015.pdf; Height: 1mm; Mouser Part Number: 511-STPS1L40M; Mouser Price/Stock: https://www.mouser.co.uk/ProductDetail/STMicroelectronics/STPS1L40M?qs=1tTY8DFIKADyj1WerxBVhA%3D%3D; Arrow Part Number: STPS1L40M; Arrow Price/Stock: https://www.arrow.com/en/products/stps1l40m/stmicroelectronics
footprint STPS1L40M
pins: 1 K_1, 2 K_2, 3 A

## STR912FAW44X6
designator IC?
Integrated Circuit; Manufacturer_Name: STMicroelectronics; Manufacturer_Part_Number: STR912FAW44X6; Datasheet Link: https://datasheet.datasheetarchive.com/originals/distributors/Datasheets-DGA25/1728490.pdf; Height: 1.6mm; Mouser Part Number: 511-STR912FAW44X6; Mouser Price/Stock: https://www.mouser.co.uk/ProductDetail/STMicroelectronics/STR912FAW44X6?qs=A09LVk8FdlJqRV16XEzRIg%3D%3D; Arrow Part Number: STR912FAW44X6; Arrow Price/Stock: https://www.arrow.com/en/products/str912faw44x6/stmicroelectronics
footprint QFP40P1600X1600X160-128N
pins: 1 P4.2, 2 P4.1, 3 P4.0, 4 AVSS, 5 P7.0, 6 P7.1, 7 P7.2, 8 VSSQ_1, 9 VDDQ_1, 10 P2.0, 11 P2.1, 12 P5.0, 13 P7.3, 14 P7.4, 15 P7.5, 16 VSS_1, 17 VDD_1, 18 P5.1, 19 P6.2, 20 P6.3, 21 EMI_BWR_WRLN, 22 EMI_WRHN, 23 VDDQ_2, 24 VSSQ_2, 25 PHYCLK_P5.2, 26 P8.0, 27 P5.3, 28 P8.1, 29 P6.0, 30 P8.2, 31 P6.1, 32 P8.3, 33 P2.2, 34 P8.4, 35 P2.3, 36 P8.5, 37 P2.4, 38 P8.6, 39 VBATT, 40 VSSQ_3, 41 X2_RTC, 42 X1_RTC, 43 VDDQ_3, 44 P8.7, 45 P2.5, 46 P9.0, 47 P9.1, 48 VSS_2, 49 VDD_2, 50 P9.2, 51 P9.3, 52 P9.4, 53 P2.6, 54 USBCLK_P2.7, 55 P3.0, 56 VSSQ_4, 57 VDDQ_4, 58 P9.5, 59 P3.1, 60 P3.2, 61 P3.3, 62 P9.6, 63 P3.4, 64 P9.7, 65 P3.5, 66 P3.6, 67 P0.0, 68 P3.7, 69 P0.1, 70 P5.4, 71 P0.2, 72 VSSQ_5, 73 VDDQ_5, 74 EMI_ALE, 75 EMI_RDN, 76 P0.3, 77 P5.5, 78 P0.4, 79 P5.6, 80 P5.7, 81 VDD_3, 82 VSS_3, 83 P6.4, 84 P6.5, 85 P0.5, 86 VDDQ_6, 87 VSSQ_6, 88 P0.6, 89 RESET_INN, 90 P0.7, 91 TAMPER_IN, 92 P6.6, 93 P6.7, 94 MII_MDIO, 95 USBDN, 96 USBDP, 97 JRTCK, 98 P1.0, 99 P1.1, 100 RESET_OUTN, 101 P1.2, 102 VDDQ_7, 103 X2_CPU, 104 X1_CPU, 105 VSSQ_7, 106 P1.3, 107 JTRSTN, 108 JTCK, 109 P1.4, 110 P1.5, 111 JTMS, 112 VDD_4, 113 VSS_4, 114 P1.6, 115 JTDI, 116 P1.7, 117 JTDO, 118 P7.6, 119 P7.7, 120 VDDQ_8, 121 VSSQ_8, 122 AVDD, 123 AVREF, 124 P4.7, 125 P4.6, 126 P4.5, 127 P4.4, 128 P4.3

## SW3516H
designator IC?
Integrated Circuit; Manufacturer_Name: Zuhai; Manufacturer_Part_Number: SW3516H; Datasheet Link: https://datasheet.lcsc.com/lcsc/1912111437_ISMARTWARE-SW3516H_C406808.pdf; Height: 0.8mm
footprint QFN40P400X400X80-29N-D
pins: 1 CC2, 2 CC1, 3 DPC, 4 DMC, 5 IDC/FLED, 6 CSPC, 7 CSNC, 8 CSNA, 9 CSPA, 10 VBUSC, 11 VBUSA, 12 VDD, 13 DGND, 14 VDRV, 15 BST, 16 LGATE, 17 HGATE, 18 SW, 19 VIN, 20 SDA, 21 SCK, 22 GATEC, 23 GATEA, 24 NTC, 25 COMP, 26 IDA, 27 DPA, 28 DMA, 29 EP

## SWPA3015S2R2MT
designator L?, comment 2.2uH
SMT Inductor; Value: 2.2uH
footprint SDR1307-220ML
pins: 1, 2

## SY8105ADC
designator IC?
Integrated Circuit, DCDC Converter; Manufacturer_Name: Silergy Corp; Datasheet Link: https://datasheet.lcsc.com/lcsc/1810010618_INJOINIC-IP2163_C185473.pdf; Height: 1mm; Manufacturer_Part_Number: SY8105ADC; JLCPCB Part Number: C178247
footprint SOT95P280X110-6N
pins: 1 FB, 2 EN, 3 GND, 4 IN, 5 LX, 6 BS

## T7C Relay
designator *, comment 27E1064
Relay, PCB, 1NO, 1NC; Manufacturer: TE Connectivity; Parameter 1: 27E1064 Socket; Parameter 2: 20C430 Spring; Parameter 3: T7C Relay Series
pins: 1 COIL_1, 2 NC, 3 NO, 4 COIL_2, 5 COM

## TAJC107K016RNJ
designator C?
Capacitor Polarised; Manufacturer_Name: AVX; Manufacturer_Part_Number: TAJC107K016RNJ; Datasheet Link: http://datasheets.avx.com/TAJ.pdf; Height: 2.8mm; Mouser Part Number: 581-TAJC107K016RNJ; Mouser Price/Stock: https://www.mouser.co.uk/ProductDetail/AVX/TAJC107K016RNJ?qs=n0G5RV3mHfO23z2twubHnw%3D%3D; Arrow Part Number: TAJC107K016RNJ; Arrow Price/Stock: https://www.arrow.com/en/products/tajc107k016rnj/avx
footprint CAPPM6032X280N
pins: 1 +, 2 -

## TAJV226K050RNJ
designator C?
Capacitor Polarised; Manufacturer_Name: Kyocera AVX; Manufacturer_Part_Number: TAJV226K050RNJ; Datasheet Link: https://www.arrow.com/en/products/tajv226k050rnj/avx; Height: 3.75mm; Mouser Part Number: 581-TAJV226K050; Mouser Price/Stock: https://www.mouser.co.uk/ProductDetail/AVX/TAJV226K050RNJ?qs=Wtp%252Bf%2FAeVqJ7BFNT%2FYDviw%3D%3D; Arrow Part Number: TAJV226K050RNJ; Arrow Price/Stock: https://www.arrow.com/en/products/tajv226k050rnj/avx
footprint CAPPM7362X375N
pins: 1 +, 2 -

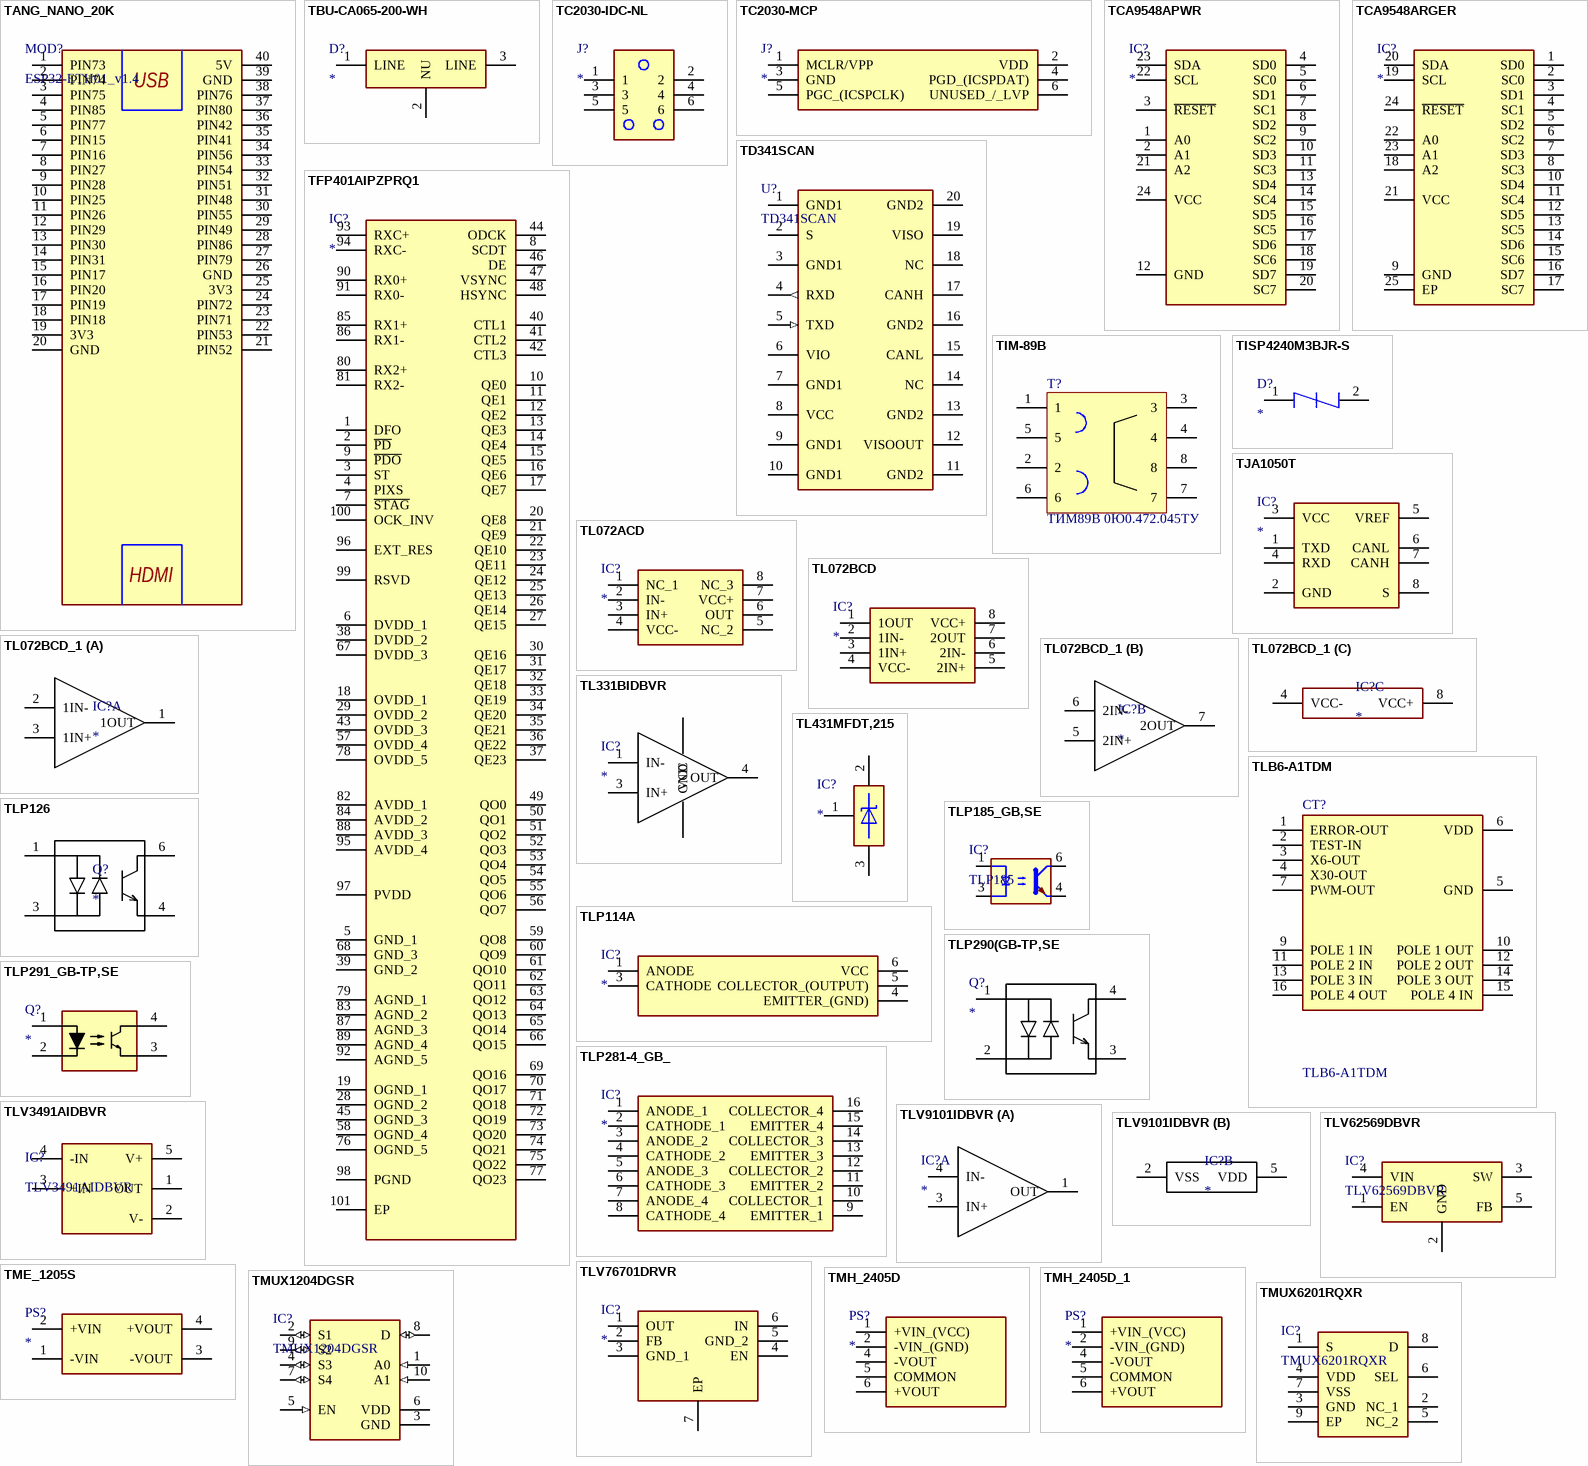
[diagram p44: symbols TANG_NANO_20K to TMUX6201RQXR]

## TANG_NANO_20K
designator MOD?, comment ESP32-ETH01_v1.4
MODULE ESP32; Manufacturer_Name: Espressif Systems; Manufacturer_Part_Number: ESP32-ETH01_v14
footprint TANG_NANO_20K
pins: 1 PIN73, 2 PIN74, 3 PIN75, 4 PIN85, 5 PIN77, 6 PIN15, 7 PIN16, 8 PIN27, 9 PIN28, 10 PIN25, 11 PIN26, 12 PIN29, 13 PIN30, 14 PIN31, 15 PIN17, 16 PIN20, 17 PIN19, 18 PIN18, 19 3V3, 20 GND, 21 PIN52, 22 PIN53, 23 PIN71, 24 PIN72, 25 3V3, 26 GND, 27 PIN79, 28 PIN86, 29 PIN49, 30 PIN55, 31 PIN48, 32 PIN51, 33 PIN54, 34 PIN56, 35 PIN41, 36 PIN42, 37 PIN80, 38 PIN76, 39 GND, 40 5V
text: USB; HDMI

## TBU-CA065-200-WH
designator D?
TVS Diode (Bi-directional); Manufacturer_Name: Bourns; Manufacturer_Part_Number: TBU-CA065-200-WH; Datasheet Link: https://www.bourns.com/data/global/pdfs/TBU-CA.pdf; Height: 1mm; Mouser Part Number: 652-TBU-CA065-200-WH; Mouser Price/Stock: https://www.mouser.co.uk/ProductDetail/Bourns/TBU-CA065-200-WH?qs=kLtMOTa49OkdVs42fYbv8A%3D%3D; Arrow Part Number: TBU-CA065-200-WH; Arrow Price/Stock: https://www.arrow.com/en/products/tbu-ca065-200-wh/bourns?region=nac
footprint TBUCA025050WH
pins: 1 LINE, 2 NU, 3 LINE

## TC2030-IDC-NL
designator J?  (no BOM)
Connector; Manufacturer_Name: Tag Connect; Manufacturer_Part_Number: TC2030-IDC-NL; Height: 18.669mm
footprint TC2030IDCNL
pins: 1, 2, 3, 4, 5, 6

## TC2030-MCP
designator J?  (no BOM)
Connector; Manufacturer_Name: Tag Connect; Manufacturer_Part_Number: TC2030-MCP; Datasheet Link: https://datasheet.datasheetarchive.com/originals/distributors/Datasheets_SAMA/eee374929cd7518d6d3464b8148cd1bf.pdf; Height: 18.669mm
footprint TC2030MCP
pins: 1 MCLR/VPP, 2 VDD, 3 GND, 4 PGD_(ICSPDAT), 5 PGC_(ICSPCLK), 6 UNUSED_/_LVP

## TCA9548APWR
designator IC?
Integrated Circuit; Manufacturer_Name: Texas Instruments; Manufacturer_Part_Number: TCA9548APWR; Datasheet Link: http://www.ti.com/lit/ds/symlink/tca9548a.pdf; Height: 1.2mm; Mouser Part Number: 595-TCA9548APWR; Mouser Price/Stock: https://www.mouser.co.uk/ProductDetail/Texas-Instruments/TCA9548APWR?qs=iFaFN7AS2WF%252BqSiJMbdYwQ%3D%3D; Arrow Part Number: TCA9548APWR; Arrow Price/Stock: https://www.arrow.com/en/products/tca9548apwr/texas-instruments?utm_currency=USD&region=nac
footprint SOP65P640X120-24N
pins: 1 A0, 2 A1, 3 ~{RESET}, 4 SD0, 5 SC0, 6 SD1, 7 SC1, 8 SD2, 9 SC2, 10 SD3, 11 SC3, 12 GND, 13 SD4, 14 SC4, 15 SD5, 16 SC5, 17 SD6, 18 SC6, 19 SD7, 20 SC7, 21 A2, 22 SCL, 23 SDA, 24 VCC

## TCA9548ARGER
designator IC?
Integrated Circuit; Manufacturer_Name: Texas Instruments; Manufacturer_Part_Number: TCA9548ARGER; Datasheet Link: http://www.ti.com/general/docs/lit/getliterature.tsp?genericPartNumber=TCA9548A&&fileType=pdf; Height: 1mm; Mouser Part Number: 595-TCA9548ARGER; Mouser Price/Stock: https://www.mouser.co.uk/ProductDetail/Texas-Instruments/TCA9548ARGER?qs=2I4pGxj2dxUewY0zSIpfWQ%3D%3D; Arrow Part Number: TCA9548ARGER; Arrow Price/Stock: https://www.arrow.com/en/products/tca9548arger/texas-instruments?region=nac
footprint QFN50P400X400X100-25N-D
pins: 1 SD0, 2 SC0, 3 SD1, 4 SC1, 5 SD2, 6 SC2, 7 SD3, 8 SC3, 9 GND, 10 SD4, 11 SC4, 12 SD5, 13 SC5, 14 SD6, 15 SC6, 16 SD7, 17 SC7, 18 A2, 19 SCL, 20 SDA, 21 VCC, 22 A0, 23 A1, 24 ~{RESET}, 25 EP

## TD341SCAN
designator U?
CAN transceiver, Isolated; Manufacturer: RUNIC; Part Number: RS2233YS16; Datasheet Link: https://static.chipdip.ru/lib/991/DOC019991430.pdf; Height: 1mm
footprint DFN20P1300X1030X90-20N
pins: 1 GND1, 2 S, 3 GND1, 4 RXD (out), 5 TXD (in), 6 VIO, 7 GND1, 8 VCC, 9 GND1, 10 GND1, 11 GND2, 12 VISOOUT, 13 GND2, 14 NC, 15 CANL, 16 GND2, 17 CANH, 18 NC, 19 VISO, 20 GND2

## TFP401AIPZPRQ1
designator IC?
Integrated Circuit; Manufacturer_Name: Texas Instruments; Manufacturer_Part_Number: TFP401AIPZPRQ1; Datasheet Link: http://www.ti.com/lit/ds/symlink/tfp401a-q1.pdf; Height: 1.2mm; Mouser Part Number: 595-TFP401AIPZPRQ1; Mouser Price/Stock: https://www.mouser.co.uk/ProductDetail/Texas-Instruments/TFP401AIPZPRQ1?qs=T1E5mKGHTGWTWhX4le8rpw%3D%3D; Arrow Part Number: TFP401AIPZPRQ1; Arrow Price/Stock: https://www.arrow.com/en/products/tfp401aipzprq1/texas-instruments?region=nac
footprint QFP50P1600X1600X120-101N
pins: 1 DFO, 2 ~{PD}, 3 ST, 4 PIXS, 5 GND_1, 6 DVDD_1, 7 ~{STAG}, 8 SCDT, 9 ~{PDO}, 10 QE0, 11 QE1, 12 QE2, 13 QE3, 14 QE4, 15 QE5, 16 QE6, 17 QE7, 18 OVDD_1, 19 OGND_1, 20 QE8, 21 QE9, 22 QE10, 23 QE11, 24 QE12, 25 QE13, 26 QE14, 27 QE15, 28 OGND_2, 29 OVDD_2, 30 QE16, 31 QE17, 32 QE18, 33 QE19, 34 QE20, 35 QE21, 36 QE22, 37 QE23, 38 DVDD_2, 39 GND_2, 40 CTL1, 41 CTL2, 42 CTL3, 43 OVDD_3, 44 ODCK, 45 OGND_3, 46 DE, 47 VSYNC, 48 HSYNC, 49 QO0, 50 QO1, 51 QO2, 52 QO3, 53 QO4, 54 QO5, 55 QO6, 56 QO7, 57 OVDD_4, 58 OGND_4, 59 QO8, 60 QO9, 61 QO10, 62 QO11, 63 QO12, 64 QO13, 65 QO14, 66 QO15, 67 DVDD_3, 68 GND_3, 69 QO16, 70 QO17, 71 QO18, 72 QO19, 73 QO20, 74 QO21, 75 QO22, 76 OGND_5, 77 QO23, 78 OVDD_5, 79 AGND_1, 80 RX2+, 81 RX2-, 82 AVDD_1, 83 AGND_2, 84 AVDD_2, 85 RX1+, 86 RX1-, 87 AGND_3, 88 AVDD_3, 89 AGND_4, 90 RX0+, 91 RX0-, 92 AGND_5, 93 RXC+, 94 RXC-, 95 AVDD_4, 96 EXT_RES, 97 PVDD, 98 PGND, 99 RSVD, 100 OCK_INV, 101 EP

## TIM-89B
designator T?, comment ТИМ89В 0Ю0.472.045ТУ
TRANS IMP
footprint TIM-89B
pins: 1, 2, 3, 4, 5, 6, 7, 8

## TISP4240M3BJR-S
designator D?
Thyristor; Manufacturer_Name: Bourns; Manufacturer_Part_Number: TISP4240M3BJR-S; Datasheet Link: http://html.alldatasheet.com/html-pdf/160733/BOURNS/TISP4240M3BJR-S/2984/13/TISP4240M3BJR-S.html; Height: 2.4mm; Mouser Part Number: 652-TISP4240M3BJR-S; Mouser Price/Stock: https://www.mouser.co.uk/ProductDetail/Bourns/TISP4240M3BJR-S?qs=0zoXPJiSMmNlDn5QEdP1vg%3D%3D; Arrow Part Number: TISP4240M3BJR-S; Arrow Price/Stock: https://www.arrow.com/en/products/tisp4240m3bjr-s/bourns?region=nac
footprint TISP4240M3BJRS
pins: 1, 2

## TJA1050T
designator IC?
Integrated Circuit; Manufacturer_Name: NXP; Manufacturer_Part_Number: TJA1050T; Datasheet Link: https://datasheet.datasheetarchive.com/originals/distributors/Datasheets-NXP/DSANXP010005907.pdf; Height: 1.75mm; Mouser Part Number: N/A; Mouser Price/Stock: https://www.mouser.co.uk/ProductDetail/NXP-Semiconductors/TJA1050T?qs=WhRErS6oET%252B5mtiFrt9ZMQ%3D%3D
footprint SOIC127P600X175-8N
pins: 1 TXD, 2 GND, 3 VCC, 4 RXD, 5 VREF, 6 CANL, 7 CANH, 8 S

## TL072ACD
designator IC?
Integrated Circuit; Manufacturer_Name: Texas Instruments; Manufacturer_Part_Number: TL072ACD; Datasheet Link: http://www.ti.com/lit/ds/symlink/tl071.pdf; Height: 1.75mm; Mouser Part Number: 595-TL072ACD; Mouser Price/Stock: https://www.mouser.co.uk/ProductDetail/Texas-Instruments/TL072ACD?qs=0OT4q4QBUTKvs4LhLdZF0Q%3D%3D; Arrow Part Number: TL072ACD; Arrow Price/Stock: https://www.arrow.com/en/products/tl072acd/texas-instruments
footprint SOIC127P600X175-8N
pins: 1 NC_1, 2 IN-, 3 IN+, 4 VCC-, 5 NC_2, 6 OUT, 7 VCC+, 8 NC_3

## TL072BCD
designator IC?
Integrated Circuit; Manufacturer_Name: Texas Instruments; Manufacturer_Part_Number: TL072BCD; Datasheet Link: http://www.ti.com/lit/ds/symlink/tl072b.pdf; Height: 1.75mm; Mouser Part Number: 595-TL072BCD; Mouser Price/Stock: https://www.mouser.com/Search/Refine.aspx?Keyword=595-TL072BCD; Arrow Part Number: TL072BCD; Arrow Price/Stock: https://www.arrow.com/en/products/tl072bcd/texas-instruments
footprint SOIC127P600X175-8N
pins: 1 1OUT, 2 1IN-, 3 1IN+, 4 VCC-, 5 2IN+, 6 2IN-, 7 2OUT, 8 VCC+

## TL072BCD_1
designator IC?
Integrated Circuit; Manufacturer_Name: Texas Instruments; Manufacturer_Part_Number: TL072BCD; Datasheet Link: http://www.ti.com/lit/ds/symlink/tl072b.pdf; Height: 1.75mm; Mouser Part Number: 595-TL072BCD; Mouser Price/Stock: https://www.mouser.com/Search/Refine.aspx?Keyword=595-TL072BCD; Arrow Part Number: TL072BCD; Arrow Price/Stock: https://www.arrow.com/en/products/tl072bcd/texas-instruments
footprint SOIC127P600X175-8N
part A pins: 1 1OUT, 2 1IN-, 3 1IN+
part B pins: 5 2IN+, 6 2IN-, 7 2OUT
part C pins: 4 VCC-, 8 VCC+

## TL331BIDBVR
designator IC?
Integrated Circuit; Manufacturer_Name: Texas Instruments; Manufacturer_Part_Number: TL331BIDBVR; Datasheet Link: https://www.ti.com/lit/gpn/TL331B; Height: 1.45mm; Mouser Part Number: 595-TL331BIDBVR; Mouser Price/Stock: https://www.mouser.co.uk/ProductDetail/Texas-Instruments/TL331BIDBVR?qs=hWgE7mdIu5RvWHRCZ8GTDQ%3D%3D; Arrow Part Number: TL331BIDBVR; Arrow Price/Stock: https://www.arrow.com/en/products/tl331bidbvr/texas-instruments?region=nac
footprint SOT95P280X145-5N
pins: 1 IN-, 2 GND, 3 IN+, 4 OUT, 5 VCC

## TL431MFDT,215
designator IC?
Integrated Circuit; Manufacturer_Name: Nexperia; Manufacturer_Part_Number: TL431MFDT,215; Datasheet Link: https://assets.nexperia.com/documents/data-sheet/TL431_FAM.pdf; Height: 1.1mm; Mouser Part Number: 771-TL431MFDT215; Mouser Price/Stock: https://www.mouser.co.uk/ProductDetail/Nexperia/TL431MFDT215?qs=A1cBxND5mHKvFzVl3lBdcQ%3D%3D; Arrow Part Number: TL431MFDT,215; Arrow Price/Stock: https://www.arrow.com/en/products/tl431mfdt215/nexperia?utm_currency=USD&region=nac
footprint SOT95P230X110-3N
pins: 1 REF, 2 K, 3 A

## TLB6-A1TDM
designator CT?
footprint TLB6-A1TDM
pins: 1 ERROR-OUT, 2 TEST-IN, 3 X6-OUT, 4 X30-OUT, 5 GND (power), 6 VDD, 7 PWM-OUT, 9 POLE 1 IN, 10 POLE 1 OUT, 11 POLE 2 IN, 12 POLE 2 OUT, 13 POLE 3 IN, 14 POLE 3 OUT, 15 POLE 4 IN, 16 POLE 4 OUT

## TLP114A
designator IC?
Integrated Circuit; Manufacturer_Name: Toshiba; Manufacturer_Part_Number: TLP114A; Datasheet Link: https://toshiba.semicon-storage.com/ap-en/semiconductor/product/isolators-solid-state-relays/detail.TLP114A(IGM).html; Height: 2.6mm
footprint TLP114A
pins: 1 ANODE, 3 CATHODE, 4 EMITTER_(GND), 5 COLLECTOR_(OUTPUT), 6 VCC

## TLP126
designator Q?
Phototransistor; Manufacturer_Name: Toshiba; Manufacturer_Part_Number: TLP126(TPL,F); Datasheet Link: http://toshiba.semicon-storage.com/info/docget.jsp?did=16738&prodName=TLP126; Height: 2mm; Arrow Part Number: TLP126(TPL,F); Arrow Price/Stock: https://www.arrow.com/en/products/tlp126-tplf/toshiba
footprint TLP126TPLF
pins: 1 ANODE,_CATHODE, 3 CATHODE,_ANODE, 4 EMITTER, 6 COLLECTOR

## TLP185_GB,SE
designator IC?, comment TLP185
OPTOISOLATOR 3.75KV 4CH TRANS; Manufacturer_Name: Toshiba; Manufacturer_Part_Number: TLP185(GB,SE; Datasheet Link: https://www.arrow.com/en/products/tlp185-gbse/toshiba; Height: 2.3mm; Mouser Part Number: 757-TLP185GBSE; Mouser Price/Stock: https://www.mouser.co.uk/ProductDetail/Toshiba/TLP185GBSE?qs=d%252BuLRCbWxrqUG9PqN7Wkhg%3D%3D; Arrow Part Number: TLP185(GB,SE; Arrow Price/Stock: https://www.arrow.com/en/products/tlp185-gbse/toshiba?region=nac
footprint SOIC127P700X230-6N_4
pins: 1, 3, 4, 6

## TLP281-4_GB_
designator IC?
OPTOISOLATOR 3.75KV 4CH TRANS; Manufacturer_Name: Toshiba; Manufacturer_Part_Number: TLP281-4(GB); Datasheet Link: https://media.digikey.com/pdf/Data%20Sheets/Toshiba%20PDFs/TLP281.pdf; Height: 2.1mm
footprint SOIC127P700X210-16N (Footprint not found)
pins: 1 ANODE_1, 2 CATHODE_1, 3 ANODE_2, 4 CATHODE_2, 5 ANODE_3, 6 CATHODE_3, 7 ANODE_4, 8 CATHODE_4, 9 EMITTER_1, 10 COLLECTOR_1, 11 EMITTER_2, 12 COLLECTOR_2, 13 EMITTER_3, 14 COLLECTOR_3, 15 EMITTER_4, 16 COLLECTOR_4

## TLP290(GB-TP,SE
designator Q?
Phototransistor; Manufacturer: Toshiba; Part Number: TLP290(GB,SE(T; Datasheet Link: https://toshiba.semicon-storage.com/info/docget.jsp?did=14154&prodName=TLP290(SE; Height: 2.3mm
footprint SOIC127P700X230-4N
pins: 1 ANODE,_CATHODE, 2 CATHODE,_ANODE, 3 EMITTER, 4 COLLECTOR

## TLP291_GB-TP,SE
designator Q?
Phototransistor; Manufacturer_Name: Toshiba; Manufacturer_Part_Number: TLP291(GB-TP,SE; Datasheet Link: http://toshiba.semicon-storage.com/info/docget.jsp?did=14152&prodName=TLP291(SE; Height: 2.3mm; Mouser Part Number: 757-TLP291GB-TPSE; Mouser Price/Stock: https://www.mouser.co.uk/ProductDetail/Toshiba/TLP291GB-TPSE?qs=ugDoPmQdBbvKqPS4293vQA%3D%3D; Arrow Part Number: TLP291(GB-TP,SE; Arrow Price/Stock: null?region=nac
footprint SOIC127P700X230-4N
pins: 1 ANODE, 2 CATHODE, 3 EMITTER, 4 COLLECTOR

## TLV3491AIDBVR
designator IC?
IC COMPARATOR 1 GEN PUR SOT23-5; Manufacturer_Name: Texas Instruments; Datasheet Link: http://www.ti.com/lit/gpn/tlv3491; Height: 1.45mm; Manufacturer_Part_Number: TLV3491AIDBVR; Mouser Part Number: 595-TLV3491AIDBVR; Mouser Price/Stock: https://www.mouser.co.uk/ProductDetail/Texas-Instruments/TLV3491AIDBVR?qs=m96fseALk3U4uJmHH1pO1w%3D%3D; Arrow Part Number: TLV3491AIDBVR; Arrow Price/Stock: https://www.arrow.com/en/products/tlv3491aidbvr/texas-instruments
footprint SOT95P280X145-5N
pins: 1 OUT, 2 V-, 3 +IN, 4 -IN, 5 V+

## TLV9101IDBVR
designator IC?
Integrated Circuit; Manufacturer_Name: Texas Instruments; Manufacturer_Part_Number: TLV9101IDBVR; Datasheet Link: http://www.ti.com/lit/ds/symlink/tlv9101.pdf; Height: 1.45mm; Mouser Part Number: 595-TLV9101IDBVR; Mouser Price/Stock: https://www.mouser.co.uk/ProductDetail/Texas-Instruments/TLV9101IDBVR?qs=P1JMDcb91o6ZLUyc%2FHtrGA%3D%3D; Arrow Part Number: TLV9101IDBVR; Arrow Price/Stock: https://www.arrow.com/en/products/tlv9101idbvr/texas-instruments?region=nac
footprint SOT95P280X145-5N
part A pins: 1 OUT, 3 IN+, 4 IN-
part B pins: 2 VSS, 5 VDD

## TLV62569DBVR
designator IC?
IC REG BUCK ADJ 2A SOT23-5; Manufacturer_Name: Texas Instruments; Datasheet Link: http://www.ti.com/lit/gpn/tlv62569; Height: 1.45mm; Manufacturer_Part_Number: TLV62569DBVR; Mouser Part Number: 595-TLV62569DBVR; Mouser Price/Stock: https://www.mouser.co.uk/ProductDetail/Texas-Instruments/TLV62569DBVR?qs=0C8XhJW8e4oaylc%252BzBrCmA%3D%3D; Arrow Part Number: TLV62569DBVR; Arrow Price/Stock: https://www.arrow.com/en/products/tlv62569dbvr/texas-instruments?region=nac
footprint SOT95P280X145-5N
pins: 1 EN, 2 GND, 3 SW, 4 VIN, 5 FB

## TLV76701DRVR
designator IC?
IC REG LINEAR POS ADJ 1A 6WSON; Manufacturer_Name: Texas Instruments; Manufacturer_Part_Number: TLV76701DRVR; Datasheet Link: http://www.ti.com/lit/gpn/TLV767; Height: 0.8mm; Mouser Part Number: 595-TLV76701DRVR; Mouser Price/Stock: https://www.mouser.co.uk/ProductDetail/Texas-Instruments/TLV76701DRVR?qs=l7cgNqFNU1h4nW14BHdGSQ%3D%3D; Arrow Part Number: TLV76701DRVR; Arrow Price/Stock: https://www.arrow.com/en/products/tlv76701drvr/texas-instruments?region=nac
footprint SON65P200X200X80-7N
pins: 1 OUT, 2 FB, 3 GND_1, 4 EN, 5 GND_2, 6 IN, 7 EP

## TME_1205S
designator PS?
Power Supply; Manufacturer_Name: Traco Power; Manufacturer_Part_Number: TME 1205S; Datasheet Link: https://tracopower.com/tme-datasheet/; Height: 10.45mm; Mouser Part Number: 495-TME-1205S; Mouser Price/Stock: https://www.mouser.co.uk/ProductDetail/TRACO-Power/TME-1205S?qs=ckJk83FOD0UrUBNeYoooNA%3D%3D; Arrow Part Number: TME 1205S; Arrow Price/Stock: https://www.arrow.com/en/products/tme1205s/traco-electronic-ag?region=europe
footprint TME0512S
pins: 1 -VIN, 2 +VIN, 3 -VOUT, 4 +VOUT

## TMH_2405D
designator PS?
Power Supply; Manufacturer_Name: Traco Power; Manufacturer_Part_Number: TMH 2405D; Datasheet Link: https://tracopower.com/tmh-datasheet/; Height: 10.45mm; Mouser Part Number: 495-TMH-2405D; Mouser Price/Stock: https://www.mouser.co.uk/ProductDetail/TRACO-Power/TMH-2405D?qs=ckJk83FOD0W%2FmAmjgWBCtw%3D%3D
footprint TMH2405D
pins: 1 +VIN_(VCC), 2 -VIN_(GND), 4 -VOUT, 5 COMMON, 6 +VOUT

## TMH_2405D_1
designator PS?
Power Supply; Manufacturer_Name: Traco Power; Manufacturer_Part_Number: TMH 2405D; Datasheet Link: https://tracopower.com/tmh-datasheet/; Height: 10.45mm; Mouser Part Number: 495-TMH-2405D; Mouser Price/Stock: https://www.mouser.co.uk/ProductDetail/TRACO-Power/TMH-2405D?qs=ckJk83FOD0W%2FmAmjgWBCtw%3D%3D
footprint TMH2405D
pins: 1 +VIN_(VCC), 2 -VIN_(GND), 4 -VOUT, 5 COMMON, 6 +VOUT

## TMUX1204DGSR
designator IC?
IC SWITCH SP4T X 1 5OHM 10VSSOP; Manufacturer_Name: Texas Instruments; Datasheet Link: http://www.ti.com/lit/gpn/TMUX1204; Height: 1.1mm; Manufacturer_Part_Number: TMUX1204DGSR; Mouser Part Number: 595-TMUX1204DGSR; Mouser Price/Stock: https://www.mouser.co.uk/ProductDetail/Texas-Instruments/TMUX1204DGSR?qs=EBDBlbfErPw42Q0DdvAwUg%3D%3D; Arrow Part Number: TMUX1204DGSR; Arrow Price/Stock: https://www.arrow.com/en/products/tmux1204dgsr/texas-instruments.html?utm_currency=USD&region=europe
footprint SOP50P490X110-10N
pins: 1 A0 (in), 2 S1 (io), 3 GND (power), 4 S3 (io), 5 EN (in), 6 VDD (power), 7 S4 (io), 8 D (io), 9 S2 (io), 10 A1 (in)

## TMUX6201RQXR
designator IC?
IC SWITCH 36-V, 1:1 (SPST); Manufacturer_Name: Texas Instruments; Datasheet Link: https://www.ti.com/lit/ds/symlink/tmux6201.pdf?ts=1753800963951&ref_url=https%253A%252F%252Fwww.mouser.com%252F; Height: 0.8mm; Manufacturer_Part_Number: TMUX6201RQXR; Mouser Part Number: 595-TMUX6201RQXR; Mouser Price/Stock: https://www.mouser.co.uk/ProductDetail/Texas-Instruments/TMUX6201RQXR?qs=3Rah4i%252BhyCH26IEGkFErXA%3D%3D; Arrow Part Number: TMUX6201RQXR; Arrow Price/Stock: https://www.arrow.com/en/products/tmux6201rqxr/texas-instruments?utm_currency=USD&region=nac
footprint SON50P300X200X80-9N-D
pins: 1 S, 2 NC_1, 3 GND, 4 VDD, 5 NC_2, 6 SEL, 7 VSS, 8 D, 9 EP

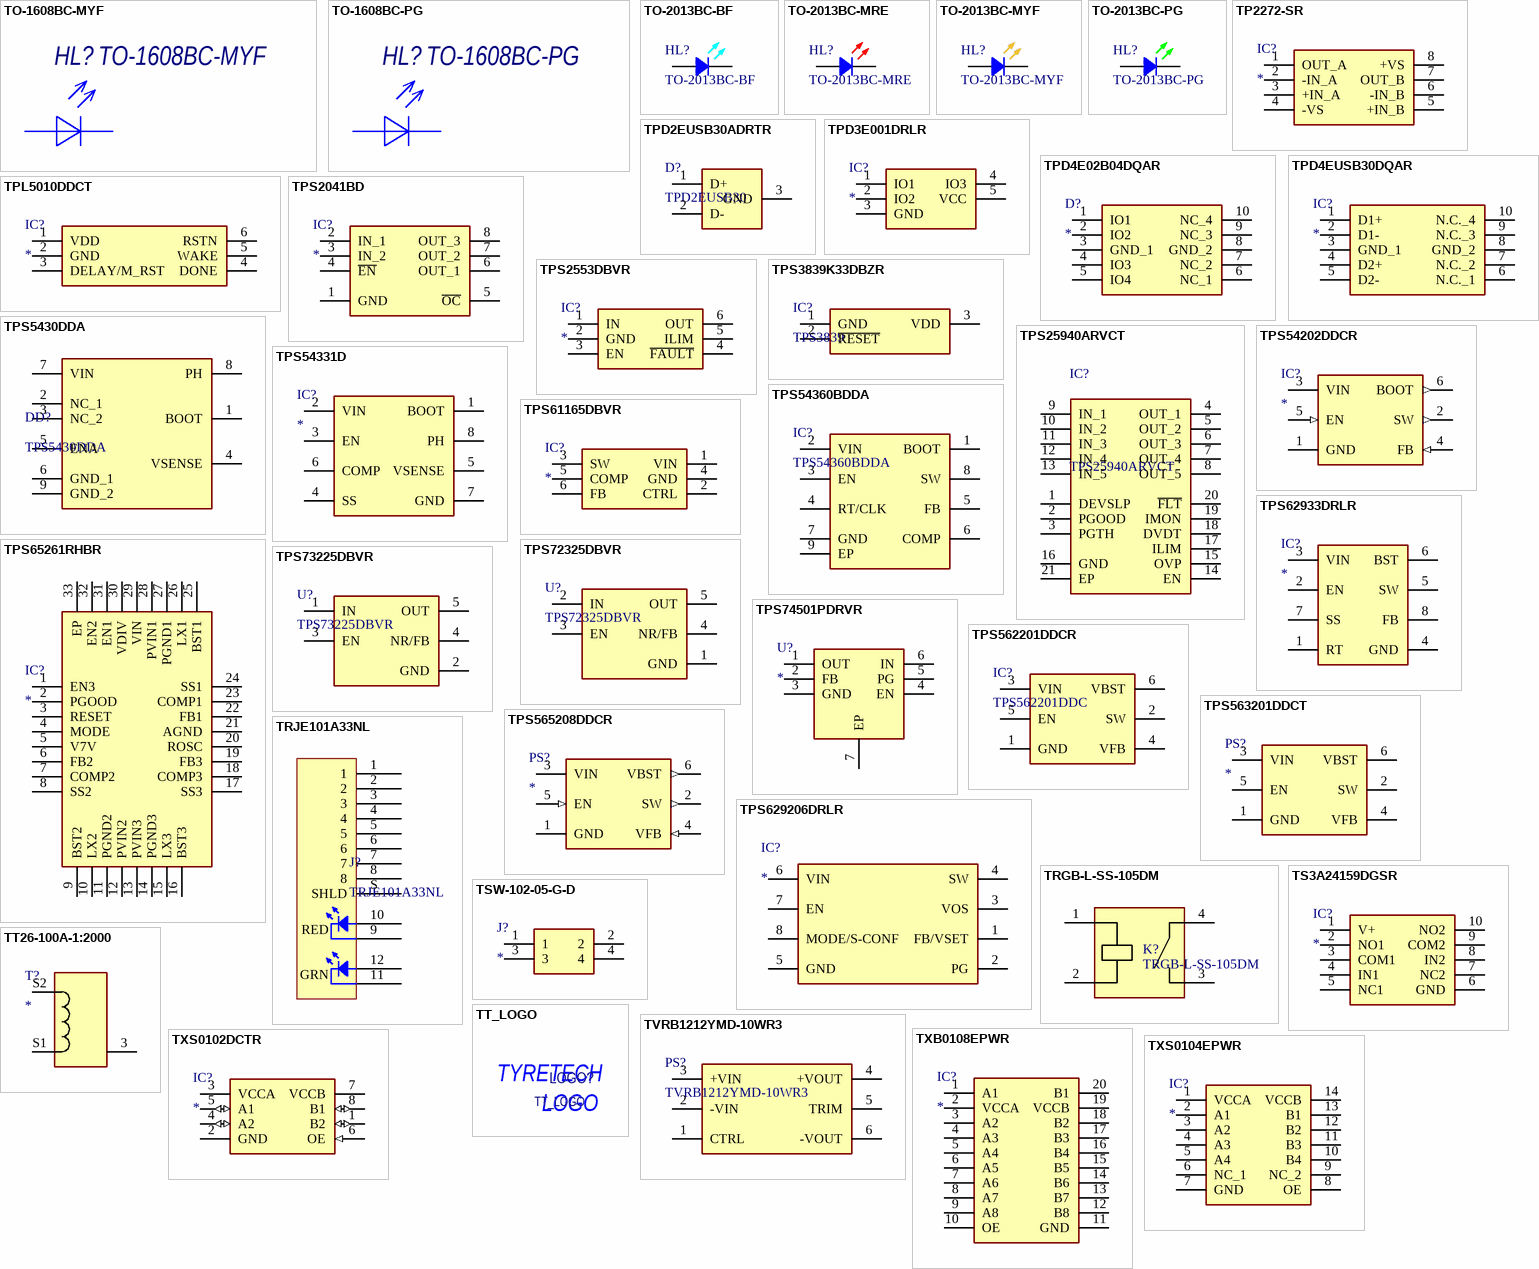
[diagram p45: symbols TO-1608BC-MYF to TXS0104EPWR]

## TO-1608BC-MYF
designator HL?
LED YELLOW; Type: Индикатор единичный; Published: 03.12.2013; Publisher: Артем Голубев
footprint TO-1608BC
pins: 1 К "Катод", 2 А "Анод"
1 alternate drawing of the same symbol

## TO-1608BC-PG
designator HL?
LED GREEN; Type: Индикатор единичный; Published: 03.12.2013; Publisher: Артем Голубев
footprint TO-1608BC
pins: 1 К "Катод", 2 А "Анод"
1 alternate drawing of the same symbol

## TO-2013BC-BF
designator HL?
LED, 0805, Blue; Manufacturer_Name: OASISTEK; Manufacturer_Part_Number: KP-2012QBC-D; Datasheet Link: https://static.chipdip.ru/lib/736/DOC002736050.pdf; Height: 1.1mm; Mouser Part Number: N/A; Mouser Price/Stock: https://www.mouser.co.uk/ProductDetail/Kingbright/KP-2012MGC?qs=2JU0tDl2GZ0DzyNwePJZSw%3D%3D; Arrow Part Number: KP-2012QBC-D; Arrow Price/Stock: https://www.arrow.com/en/products/kp-2012mgc/kingbright
footprint LEDC2012X110N_blue
pins: 1 A, 2 C

## TO-2013BC-MRE
designator HL?
LED, 0805, Red; Manufacturer_Name: OASISTEK; Datasheet Link: https://static.chipdip.ru/lib/736/DOC002736052.pdf; Height: 1.1mm; Manufacturer_Part_Number: TO-2013BC-MRE; Mouser Part Number: N/A; Mouser Price/Stock: https://www.mouser.co.uk/ProductDetail/Kingbright/KP-2012MGC?qs=2JU0tDl2GZ0DzyNwePJZSw%3D%3D; Arrow Part Number: KP-2012ID; Arrow Price/Stock: https://www.arrow.com/en/products/kp-2012mgc/kingbright
footprint LEDC2012X110N_RED
pins: 1 A, 2 C

## TO-2013BC-MYF
designator HL?
LED, 0805, Yellow; Manufacturer_Name: OASISTEK; Datasheet Link: https://static.chipdip.ru/lib/736/DOC002736052.pdf; Height: 1.1mm; Manufacturer_Part_Number: TO-2013BC-MYF; Mouser Part Number: N/A; Mouser Price/Stock: https://www.mouser.co.uk/ProductDetail/Kingbright/KP-2012MGC?qs=2JU0tDl2GZ0DzyNwePJZSw%3D%3D; Arrow Part Number: TO-2013BC-MYF; Arrow Price/Stock: https://www.arrow.com/en/products/kp-2012mgc/kingbright
footprint LEDC2012X110N_YELLOW (Footprint not found)
pins: 1 A, 2 C

## TO-2013BC-PG
designator HL?
LED, 0805, Green; Manufacturer_Name: OASISTEK; Datasheet Link: https://static.chipdip.ru/lib/736/DOC002736056.pdf; Height: 1.1mm; Manufacturer_Part_Number: TO-2013BC-PG; Mouser Part Number: N/A; Mouser Price/Stock: https://www.mouser.co.uk/ProductDetail/Kingbright/KP-2012MGC?qs=2JU0tDl2GZ0DzyNwePJZSw%3D%3D; Arrow Part Number: KP-2012MGC; Arrow Price/Stock: https://www.arrow.com/en/products/kp-2012mgc/kingbright
footprint LEDC2012X110N
pins: 1 A, 2 C

## TP2272-SR
designator IC?
Integrated Circuit; Manufacturer_Name: 3Peak Incorporated; Manufacturer_Part_Number: TP2272-SR; Height: 1.8mm
footprint SOIC127P605X180-8N
pins: 1 OUT_A, 2 -IN_A, 3 +IN_A, 4 -VS, 5 +IN_B, 6 -IN_B, 7 OUT_B, 8 +VS

## TPD2EUSB30ADRTR
designator D?, comment TPD2EUSB30
TVS DIODE 3.6VWM 8VC SOT3; Manufacturer_Name: Texas Instruments; Manufacturer_Part_Number: TPD2EUSB30ADRTR; Datasheet Link: http://www.ti.com/lit/gpn/tpd2eusb30a; Mouser Part Number: 595-TPD2EUSB30ADRTR; Mouser Price/Stock: https://www.mouser.co.uk/ProductDetail/Texas-Instruments/TPD2EUSB30ADRTR?qs=O1HRStiETCgOfMa6oTfOlg%3D%3D; Arrow Part Number: TPD2EUSB30ADRTR; Arrow Price/Stock: https://www.arrow.com/en/products/tpd2eusb30adrtr/texas-instruments?utm_currency=USD&region=nac
footprint SOT35P100X50-3N
pins: 1 D+, 2 D-, 3 GND

## TPD3E001DRLR
designator IC?
Integrated Circuit; Manufacturer_Name: Texas Instruments; Manufacturer_Part_Number: TPD3E001DRLR; Datasheet Link: http://www.ti.com/lit/ds/symlink/tpd3e001.pdf; Height: 0.6mm; Mouser Part Number: 595-TPD3E001DRLR; Mouser Price/Stock: https://www.mouser.co.uk/ProductDetail/Texas-Instruments/TPD3E001DRLR?qs=t6sYTo5dwUz70OwW3s2cQw%3D%3D; Arrow Part Number: TPD3E001DRLR; Arrow Price/Stock: https://www.arrow.com/en/products/tpd3e001drlr/texas-instruments?region=nac
footprint SOTFL50P160X60-5N
pins: 1 IO1, 2 IO2, 3 GND, 4 IO3, 5 VCC

## TPD4E02B04DQAR
designator D?
Diode; Manufacturer_Name: Texas Instruments; Manufacturer_Part_Number: TPD4E02B04DQAR; Datasheet Link: http://www.ti.com/lit/gpn/tpd4e02b04; Mouser Part Number: 595-TPD4E02B04DQAR; Mouser Price/Stock: https://www.mouser.co.uk/ProductDetail/Texas-Instruments/TPD4E02B04DQAR?qs=8%2FmU9qzJpL%2FFVYtHO1iV9g%3D%3D; Arrow Part Number: TPD4E02B04DQAR; Arrow Price/Stock: https://www.arrow.com/en/products/tpd4e02b04dqar/texas-instruments.html?utm_currency=USD&region=asia
footprint DQA(R-PUSON-N10)
pins: 1 IO1, 2 IO2, 3 GND_1, 4 IO3, 5 IO4, 6 NC_1, 7 NC_2, 8 GND_2, 9 NC_3, 10 NC_4

## TPD4EUSB30DQAR
designator IC?
Integrated Circuit; Manufacturer_Name: Texas Instruments; Manufacturer_Part_Number: TPD4EUSB30DQAR; Datasheet Link: http://www.ti.com/lit/gpn/tpd4eusb30; Mouser Part Number: 595-TPD4EUSB30DQAR; Mouser Price/Stock: https://www.mouser.co.uk/ProductDetail/Texas-Instruments/TPD4EUSB30DQAR?qs=Ze4%2FuFuz19JpY4uqYOLMbQ%3D%3D; Arrow Part Number: TPD4EUSB30DQAR; Arrow Price/Stock: https://www.arrow.com/en/products/tpd4eusb30dqar/texas-instruments?region=nac
footprint DQA(R-PUSON-N10)
pins: 1 D1+, 2 D1-, 3 GND_1, 4 D2+, 5 D2-, 6 N.C._1, 7 N.C._2, 8 GND_2, 9 N.C._3, 10 N.C._4